# Altium integrated library Freescale Semiconductor ColdFire MCU.IntLib: 117 symbols (part 1 of 7)
Pins are listed as number, name and electrical type; pins without a type are passive.

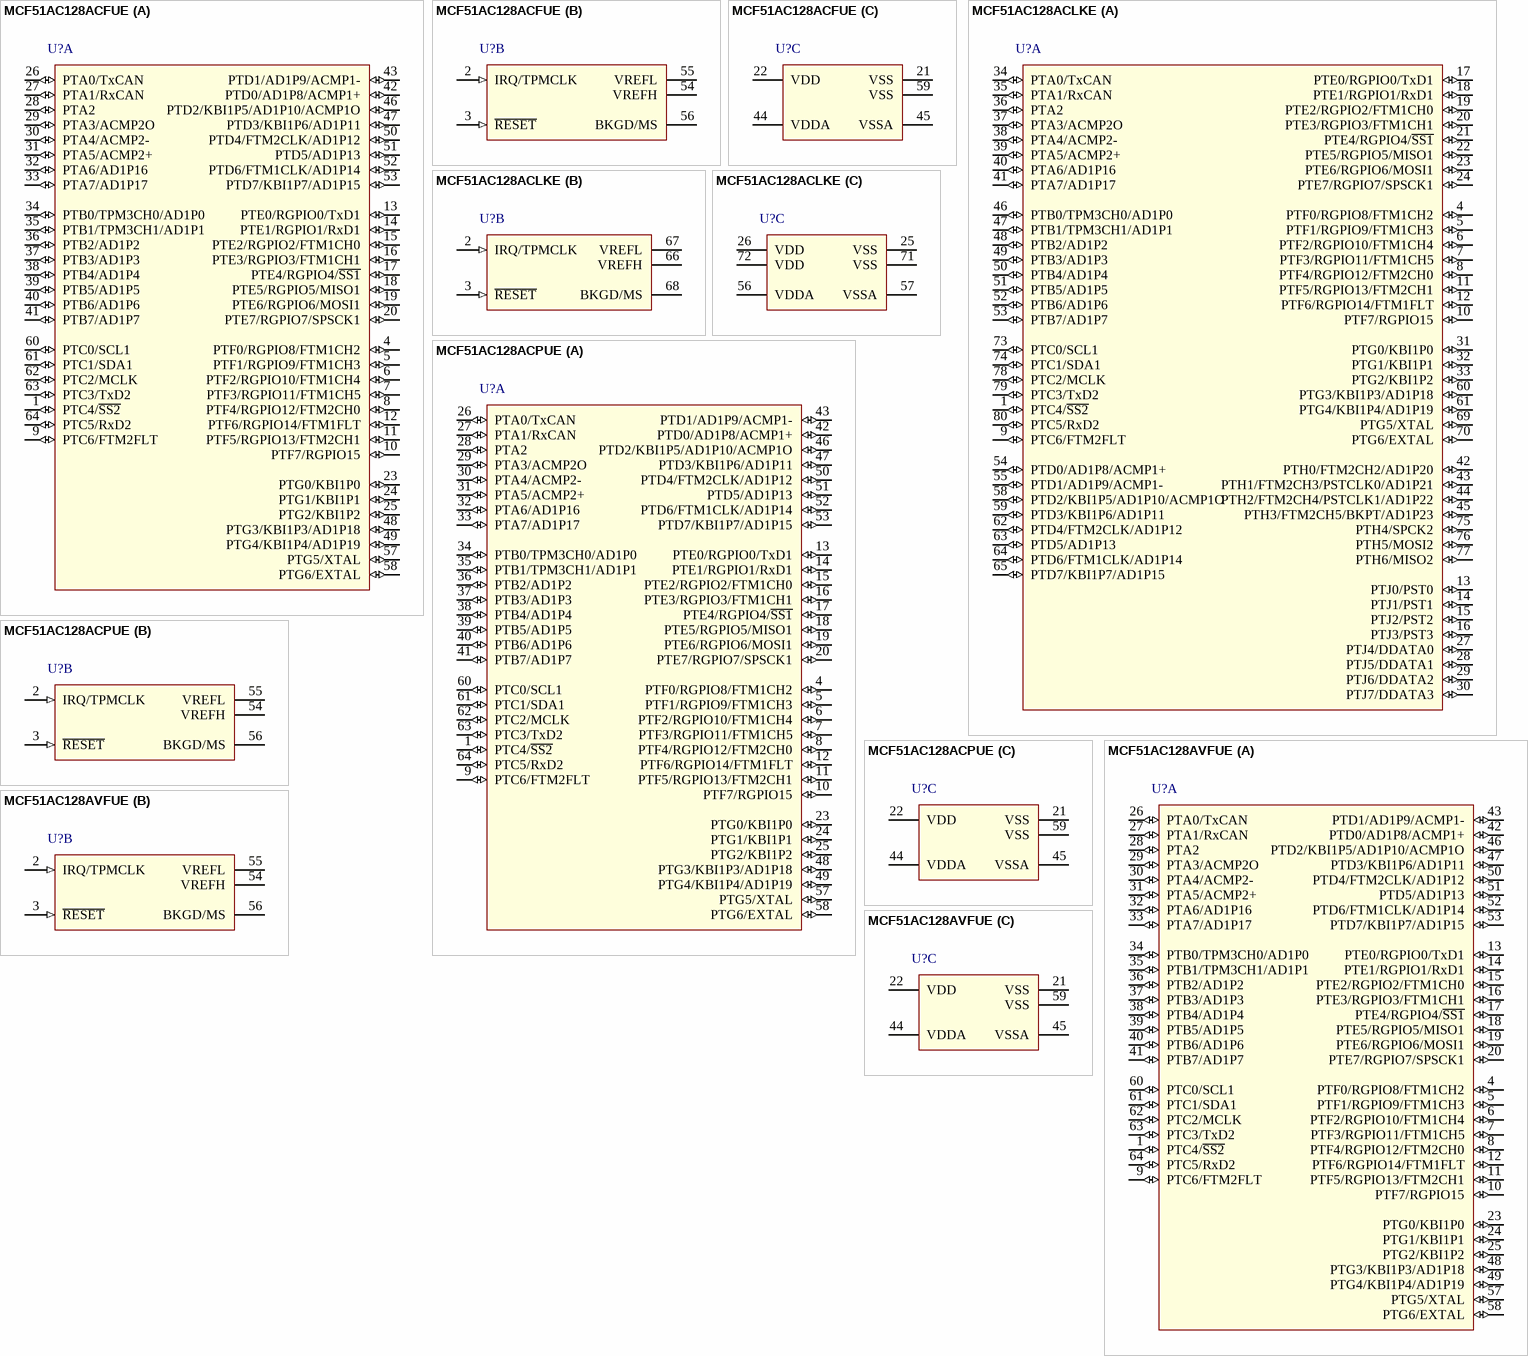
[diagram p0: symbols MCF51AC128ACFUE to MCF51AC128AVFUE]

## MCF51AC128ACFUE
designator U?
MCF51AC128 ColdFire V1 Microcontroller with CAN, 32-Bit, 128KB Flash, 32KB SRAM, -40°C to 85°C, 64-Pin QFP; DatasheetVersion: rev6, Mar-2011; PackageVersion: rev6, Mar-2011; PackageReference: 840B-02; PackageDescription: 64-Pin Quad Flat Pack, 14 x 14 mm Body, 0.8 mm Pitch; ComponentLink1Description: Manufacturer URL; ComponentLink1URL: http://www.freescale.com/; ComponentLink2Description: Datasheet; ComponentLink2URL: http://cache.freescale.com/files/32bit/doc/data_sheet/MCF51AC256.pdf?fpsp=1&WT_TYPE=Data%20Sheets&WT_VENDOR=FREESCALE&WT_FILE_FORMAT=pdf&WT_ASSET=Documentation
footprint 840B-02_N (QFP, 64-Leads, Body 14x14mm, Pitch 0.8mm, IPC Medium Density)
footprint 840B-02_L (QFP, 64-Leads, Body 14x14mm, Pitch 0.8mm, IPC High Density)
footprint 840B-02_M (QFP, 64-Leads, Body 14x14mm, Pitch 0.8mm, IPC Low Density)
part A pins: 1 PTC4/~{SS2} (io), 4 PTF0/RGPIO8/FTM1CH2 (io), 5 PTF1/RGPIO9/FTM1CH3 (io), 6 PTF2/RGPIO10/FTM1CH4 (io), 7 PTF3/RGPIO11/FTM1CH5 (io), 8 PTF4/RGPIO12/FTM2CH0 (io), 9 PTC6/FTM2FLT (io), 10 PTF7/RGPIO15 (io), 11 PTF5/RGPIO13/FTM2CH1 (io), 12 PTF6/RGPIO14/FTM1FLT (io), 13 PTE0/RGPIO0/TxD1 (io), 14 PTE1/RGPIO1/RxD1 (io), 15 PTE2/RGPIO2/FTM1CH0 (io), 16 PTE3/RGPIO3/FTM1CH1 (io), 17 PTE4/RGPIO4/~{SS1} (io), 18 PTE5/RGPIO5/MISO1 (io), 19 PTE6/RGPIO6/MOSI1 (io), 20 PTE7/RGPIO7/SPSCK1 (io), 23 PTG0/KBI1P0 (io), 24 PTG1/KBI1P1 (io), 25 PTG2/KBI1P2 (io), 26 PTA0/TxCAN (io), 27 PTA1/RxCAN (io), 28 PTA2 (io), 29 PTA3/ACMP2O (io), 30 PTA4/ACMP2- (io), 31 PTA5/ACMP2+ (io), 32 PTA6/AD1P16 (io), 33 PTA7/AD1P17 (io), 34 PTB0/TPM3CH0/AD1P0 (io), 35 PTB1/TPM3CH1/AD1P1 (io), 36 PTB2/AD1P2 (io), 37 PTB3/AD1P3 (io), 38 PTB4/AD1P4 (io), 39 PTB5/AD1P5 (io), 40 PTB6/AD1P6 (io), 41 PTB7/AD1P7 (io), 42 PTD0/AD1P8/ACMP1+ (io), 43 PTD1/AD1P9/ACMP1- (io), 46 PTD2/KBI1P5/AD1P10/ACMP1O (io), 47 PTD3/KBI1P6/AD1P11 (io), 48 PTG3/KBI1P3/AD1P18 (io), 49 PTG4/KBI1P4/AD1P19 (io), 50 PTD4/FTM2CLK/AD1P12 (io), 51 PTD5/AD1P13 (io), 52 PTD6/FTM1CLK/AD1P14 (io), 53 PTD7/KBI1P7/AD1P15 (io), 57 PTG5/XTAL (io), 58 PTG6/EXTAL (io), 60 PTC0/SCL1 (io), 61 PTC1/SDA1 (io), 62 PTC2/MCLK (io), 63 PTC3/TxD2 (io), 64 PTC5/RxD2 (io)
part B pins: 2 IRQ/TPMCLK (in), 3 ~{RESET} (in), 54 VREFH (power), 55 VREFL (power), 56 BKGD/MS
part C pins: 21 VSS (power), 22 VDD (power), 44 VDDA (power), 45 VSSA (power), 59 VSS (power)

## MCF51AC128ACLKE
designator U?
MCF51AC128 ColdFire V1 Microcontroller with CAN, 32-Bit, 128KB Flash, 32KB SRAM, -40°C to 85°C, 80-Pin LQFP; DatasheetVersion: rev6, Mar-2011; PackageVersion: revC, May-2005; PackageReference: 1418-01; PackageDescription: 80-Pin Quad Flat Pack 0.65 mm Pitch; ComponentLink1Description: Manufacturer URL; ComponentLink1URL: http://www.freescale.com/; ComponentLink2Description: Datasheet; ComponentLink2URL: http://cache.freescale.com/files/32bit/doc/data_sheet/MCF51AC256.pdf?fpsp=1&WT_TYPE=Data%20Sheets&WT_VENDOR=FREESCALE&WT_FILE_FORMAT=pdf&WT_ASSET=Documentation
footprint 1418-01_N (QFP, 80-Leads, Body 14x14mm, Pitch 0.65mm, IPC Medium Density)
footprint 1418-01_L (QFP, 80-Leads, Body 14x14mm, Pitch 0.65mm, IPC High Density)
footprint 1418-01_M (QFP, 80-Leads, Body 14x14mm, Pitch 0.65mm, IPC Low Density)
part A pins: 1 PTC4/~{SS2} (io), 4 PTF0/RGPIO8/FTM1CH2 (io), 5 PTF1/RGPIO9/FTM1CH3 (io), 6 PTF2/RGPIO10/FTM1CH4 (io), 7 PTF3/RGPIO11/FTM1CH5 (io), 8 PTF4/RGPIO12/FTM2CH0 (io), 9 PTC6/FTM2FLT (io), 10 PTF7/RGPIO15 (io), 11 PTF5/RGPIO13/FTM2CH1 (io), 12 PTF6/RGPIO14/FTM1FLT (io), 13 PTJ0/PST0 (io), 14 PTJ1/PST1 (io), 15 PTJ2/PST2 (io), 16 PTJ3/PST3 (io), 17 PTE0/RGPIO0/TxD1 (io), 18 PTE1/RGPIO1/RxD1 (io), 19 PTE2/RGPIO2/FTM1CH0 (io), 20 PTE3/RGPIO3/FTM1CH1 (io), 21 PTE4/RGPIO4/~{SS1} (io), 22 PTE5/RGPIO5/MISO1 (io), 23 PTE6/RGPIO6/MOSI1 (io), 24 PTE7/RGPIO7/SPSCK1 (io), 27 PTJ4/DDATA0 (io), 28 PTJ5/DDATA1 (io), 29 PTJ6/DDATA2 (io), 30 PTJ7/DDATA3 (io), 31 PTG0/KBI1P0 (io), 32 PTG1/KBI1P1 (io), 33 PTG2/KBI1P2 (io), 34 PTA0/TxCAN (io), 35 PTA1/RxCAN (io), 36 PTA2 (io), 37 PTA3/ACMP2O (io), 38 PTA4/ACMP2- (io), 39 PTA5/ACMP2+ (io), 40 PTA6/AD1P16 (io), 41 PTA7/AD1P17 (io), 42 PTH0/FTM2CH2/AD1P20 (io), 43 PTH1/FTM2CH3/PSTCLK0/AD1P21 (io), 44 PTH2/FTM2CH4/PSTCLK1/AD1P22 (io), 45 PTH3/FTM2CH5/BKPT/AD1P23 (io), 46 PTB0/TPM3CH0/AD1P0 (io), 47 PTB1/TPM3CH1/AD1P1 (io), 48 PTB2/AD1P2 (io), 49 PTB3/AD1P3 (io), 50 PTB4/AD1P4 (io), 51 PTB5/AD1P5 (io), 52 PTB6/AD1P6 (io), 53 PTB7/AD1P7 (io), 54 PTD0/AD1P8/ACMP1+ (io), 55 PTD1/AD1P9/ACMP1- (io), 58 PTD2/KBI1P5/AD1P10/ACMP1O (io), 59 PTD3/KBI1P6/AD1P11 (io), 60 PTG3/KBI1P3/AD1P18 (io), 61 PTG4/KBI1P4/AD1P19 (io), 62 PTD4/FTM2CLK/AD1P12 (io), 63 PTD5/AD1P13 (io), 64 PTD6/FTM1CLK/AD1P14 (io), 65 PTD7/KBI1P7/AD1P15 (io), 69 PTG5/XTAL (io), 70 PTG6/EXTAL (io), 73 PTC0/SCL1 (io), 74 PTC1/SDA1 (io), 75 PTH4/SPCK2 (io), 76 PTH5/MOSI2 (io), 77 PTH6/MISO2 (io), 78 PTC2/MCLK (io), 79 PTC3/TxD2 (io), 80 PTC5/RxD2 (io)
part B pins: 2 IRQ/TPMCLK (in), 3 ~{RESET} (in), 66 VREFH (power), 67 VREFL (power), 68 BKGD/MS
part C pins: 25 VSS (power), 26 VDD (power), 56 VDDA (power), 57 VSSA (power), 71 VSS (power), 72 VDD (power)

## MCF51AC128ACPUE
designator U?
MCF51AC128 ColdFire V1 Microcontroller with CAN, 32-Bit, 128KB Flash, 32KB SRAM, -40°C to 85°C, 64-Pin LQFP; DatasheetVersion: rev6, Mar-2011; PackageVersion: rev6, Mar-2011; PackageReference: 840F-02; PackageDescription: 64-Pin Thin Quad Flat Pack, 10 x 10 mm Body, 0.5 mm Pitch; ComponentLink1Description: Manufacturer URL; ComponentLink1URL: http://www.freescale.com/; ComponentLink2Description: Datasheet; ComponentLink2URL: http://cache.freescale.com/files/32bit/doc/data_sheet/MCF51AC256.pdf?fpsp=1&WT_TYPE=Data%20Sheets&WT_VENDOR=FREESCALE&WT_FILE_FORMAT=pdf&WT_ASSET=Documentation
footprint 840F-02_N (Thin QFP, 64-Leads, Body 10x10mm, Pitch 0.5mm, IPC Medium Density)
footprint 840F-02_L (Thin QFP, 64-Leads, Body 10x10mm, Pitch 0.5mm, IPC High Density)
footprint 840F-02_M (Thin QFP, 64-Leads, Body 10x10mm, Pitch 0.5mm, IPC Low Density)
part A pins: 1 PTC4/~{SS2} (io), 4 PTF0/RGPIO8/FTM1CH2 (io), 5 PTF1/RGPIO9/FTM1CH3 (io), 6 PTF2/RGPIO10/FTM1CH4 (io), 7 PTF3/RGPIO11/FTM1CH5 (io), 8 PTF4/RGPIO12/FTM2CH0 (io), 9 PTC6/FTM2FLT (io), 10 PTF7/RGPIO15 (io), 11 PTF5/RGPIO13/FTM2CH1 (io), 12 PTF6/RGPIO14/FTM1FLT (io), 13 PTE0/RGPIO0/TxD1 (io), 14 PTE1/RGPIO1/RxD1 (io), 15 PTE2/RGPIO2/FTM1CH0 (io), 16 PTE3/RGPIO3/FTM1CH1 (io), 17 PTE4/RGPIO4/~{SS1} (io), 18 PTE5/RGPIO5/MISO1 (io), 19 PTE6/RGPIO6/MOSI1 (io), 20 PTE7/RGPIO7/SPSCK1 (io), 23 PTG0/KBI1P0 (io), 24 PTG1/KBI1P1 (io), 25 PTG2/KBI1P2 (io), 26 PTA0/TxCAN (io), 27 PTA1/RxCAN (io), 28 PTA2 (io), 29 PTA3/ACMP2O (io), 30 PTA4/ACMP2- (io), 31 PTA5/ACMP2+ (io), 32 PTA6/AD1P16 (io), 33 PTA7/AD1P17 (io), 34 PTB0/TPM3CH0/AD1P0 (io), 35 PTB1/TPM3CH1/AD1P1 (io), 36 PTB2/AD1P2 (io), 37 PTB3/AD1P3 (io), 38 PTB4/AD1P4 (io), 39 PTB5/AD1P5 (io), 40 PTB6/AD1P6 (io), 41 PTB7/AD1P7 (io), 42 PTD0/AD1P8/ACMP1+ (io), 43 PTD1/AD1P9/ACMP1- (io), 46 PTD2/KBI1P5/AD1P10/ACMP1O (io), 47 PTD3/KBI1P6/AD1P11 (io), 48 PTG3/KBI1P3/AD1P18 (io), 49 PTG4/KBI1P4/AD1P19 (io), 50 PTD4/FTM2CLK/AD1P12 (io), 51 PTD5/AD1P13 (io), 52 PTD6/FTM1CLK/AD1P14 (io), 53 PTD7/KBI1P7/AD1P15 (io), 57 PTG5/XTAL (io), 58 PTG6/EXTAL (io), 60 PTC0/SCL1 (io), 61 PTC1/SDA1 (io), 62 PTC2/MCLK (io), 63 PTC3/TxD2 (io), 64 PTC5/RxD2 (io)
part B pins: 2 IRQ/TPMCLK (in), 3 ~{RESET} (in), 54 VREFH (power), 55 VREFL (power), 56 BKGD/MS
part C pins: 21 VSS (power), 22 VDD (power), 44 VDDA (power), 45 VSSA (power), 59 VSS (power)

## MCF51AC128AVFUE
designator U?
MCF51AC128 ColdFire V1 Microcontroller with CAN, 32-Bit, 128KB Flash, 32KB SRAM, -40°C to 105°C, 64-Pin QFP; DatasheetVersion: rev6, Mar-2011; PackageVersion: rev6, Mar-2011; PackageReference: 840B-02; PackageDescription: 64-Pin Quad Flat Pack, 14 x 14 mm Body, 0.8 mm Pitch; ComponentLink1Description: Manufacturer URL; ComponentLink1URL: http://www.freescale.com/; ComponentLink2Description: Datasheet; ComponentLink2URL: http://cache.freescale.com/files/32bit/doc/data_sheet/MCF51AC256.pdf?fpsp=1&WT_TYPE=Data%20Sheets&WT_VENDOR=FREESCALE&WT_FILE_FORMAT=pdf&WT_ASSET=Documentation
footprint 840B-02_N (QFP, 64-Leads, Body 14x14mm, Pitch 0.8mm, IPC Medium Density)
footprint 840B-02_L (QFP, 64-Leads, Body 14x14mm, Pitch 0.8mm, IPC High Density)
footprint 840B-02_M (QFP, 64-Leads, Body 14x14mm, Pitch 0.8mm, IPC Low Density)
part A pins: 1 PTC4/~{SS2} (io), 4 PTF0/RGPIO8/FTM1CH2 (io), 5 PTF1/RGPIO9/FTM1CH3 (io), 6 PTF2/RGPIO10/FTM1CH4 (io), 7 PTF3/RGPIO11/FTM1CH5 (io), 8 PTF4/RGPIO12/FTM2CH0 (io), 9 PTC6/FTM2FLT (io), 10 PTF7/RGPIO15 (io), 11 PTF5/RGPIO13/FTM2CH1 (io), 12 PTF6/RGPIO14/FTM1FLT (io), 13 PTE0/RGPIO0/TxD1 (io), 14 PTE1/RGPIO1/RxD1 (io), 15 PTE2/RGPIO2/FTM1CH0 (io), 16 PTE3/RGPIO3/FTM1CH1 (io), 17 PTE4/RGPIO4/~{SS1} (io), 18 PTE5/RGPIO5/MISO1 (io), 19 PTE6/RGPIO6/MOSI1 (io), 20 PTE7/RGPIO7/SPSCK1 (io), 23 PTG0/KBI1P0 (io), 24 PTG1/KBI1P1 (io), 25 PTG2/KBI1P2 (io), 26 PTA0/TxCAN (io), 27 PTA1/RxCAN (io), 28 PTA2 (io), 29 PTA3/ACMP2O (io), 30 PTA4/ACMP2- (io), 31 PTA5/ACMP2+ (io), 32 PTA6/AD1P16 (io), 33 PTA7/AD1P17 (io), 34 PTB0/TPM3CH0/AD1P0 (io), 35 PTB1/TPM3CH1/AD1P1 (io), 36 PTB2/AD1P2 (io), 37 PTB3/AD1P3 (io), 38 PTB4/AD1P4 (io), 39 PTB5/AD1P5 (io), 40 PTB6/AD1P6 (io), 41 PTB7/AD1P7 (io), 42 PTD0/AD1P8/ACMP1+ (io), 43 PTD1/AD1P9/ACMP1- (io), 46 PTD2/KBI1P5/AD1P10/ACMP1O (io), 47 PTD3/KBI1P6/AD1P11 (io), 48 PTG3/KBI1P3/AD1P18 (io), 49 PTG4/KBI1P4/AD1P19 (io), 50 PTD4/FTM2CLK/AD1P12 (io), 51 PTD5/AD1P13 (io), 52 PTD6/FTM1CLK/AD1P14 (io), 53 PTD7/KBI1P7/AD1P15 (io), 57 PTG5/XTAL (io), 58 PTG6/EXTAL (io), 60 PTC0/SCL1 (io), 61 PTC1/SDA1 (io), 62 PTC2/MCLK (io), 63 PTC3/TxD2 (io), 64 PTC5/RxD2 (io)
part B pins: 2 IRQ/TPMCLK (in), 3 ~{RESET} (in), 54 VREFH (power), 55 VREFL (power), 56 BKGD/MS
part C pins: 21 VSS (power), 22 VDD (power), 44 VDDA (power), 45 VSSA (power), 59 VSS (power)

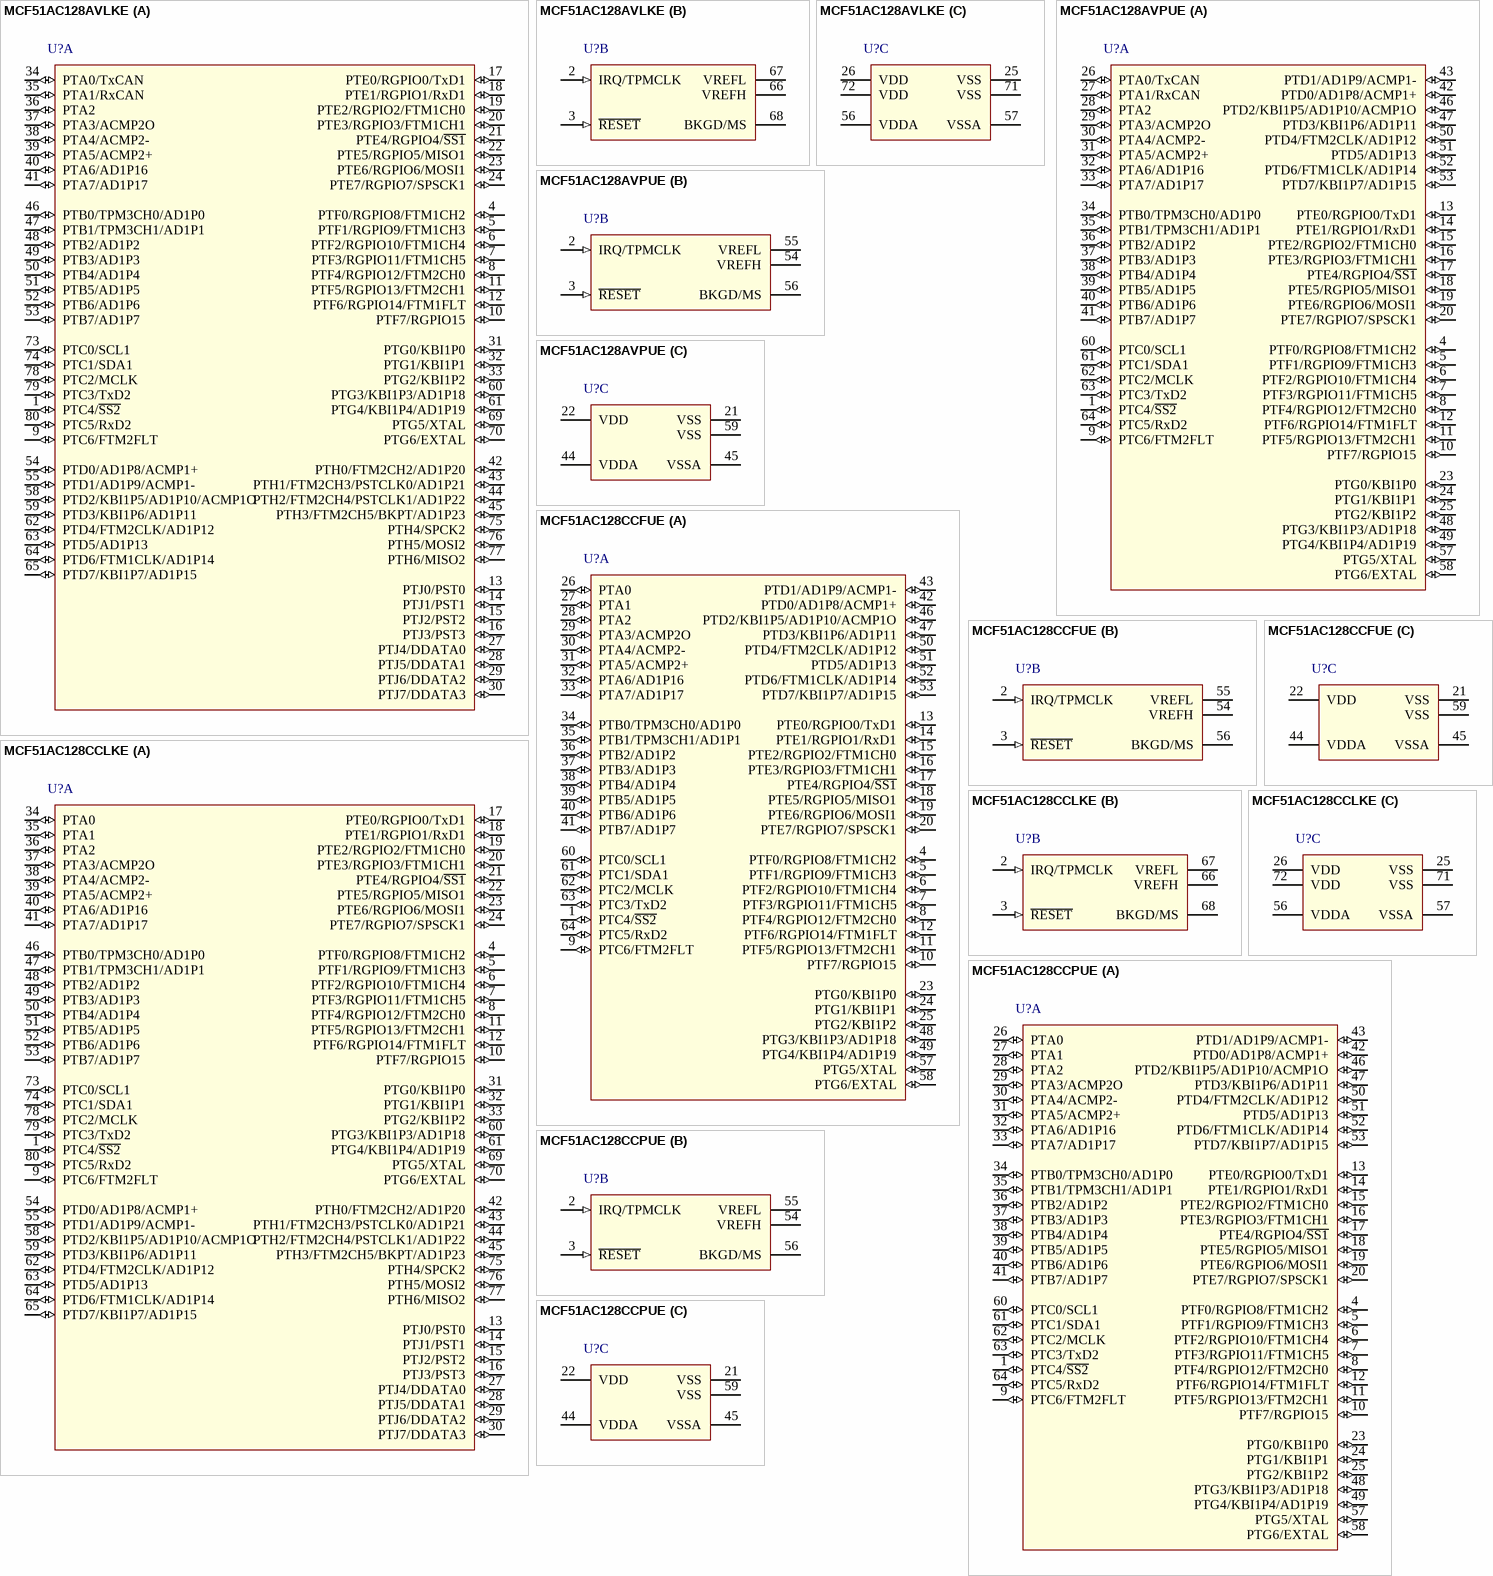
[diagram p1: symbols MCF51AC128AVLKE to MCF51AC128CCPUE]

## MCF51AC128AVLKE
designator U?
MCF51AC128 ColdFire V1 Microcontroller with CAN, 32-Bit, 128KB Flash, 32KB SRAM, -40°C to 105°C, 80-Pin LQFP; DatasheetVersion: rev6, Mar-2011; PackageVersion: revC, May-2005; PackageReference: 1418-01; PackageDescription: 80-Pin Quad Flat Pack 0.65 mm Pitch; ComponentLink1Description: Manufacturer URL; ComponentLink1URL: http://www.freescale.com/; ComponentLink2Description: Datasheet; ComponentLink2URL: http://cache.freescale.com/files/32bit/doc/data_sheet/MCF51AC256.pdf?fpsp=1&WT_TYPE=Data%20Sheets&WT_VENDOR=FREESCALE&WT_FILE_FORMAT=pdf&WT_ASSET=Documentation
footprint 1418-01_N (QFP, 80-Leads, Body 14x14mm, Pitch 0.65mm, IPC Medium Density)
footprint 1418-01_L (QFP, 80-Leads, Body 14x14mm, Pitch 0.65mm, IPC High Density)
footprint 1418-01_M (QFP, 80-Leads, Body 14x14mm, Pitch 0.65mm, IPC Low Density)
part A pins: 1 PTC4/~{SS2} (io), 4 PTF0/RGPIO8/FTM1CH2 (io), 5 PTF1/RGPIO9/FTM1CH3 (io), 6 PTF2/RGPIO10/FTM1CH4 (io), 7 PTF3/RGPIO11/FTM1CH5 (io), 8 PTF4/RGPIO12/FTM2CH0 (io), 9 PTC6/FTM2FLT (io), 10 PTF7/RGPIO15 (io), 11 PTF5/RGPIO13/FTM2CH1 (io), 12 PTF6/RGPIO14/FTM1FLT (io), 13 PTJ0/PST0 (io), 14 PTJ1/PST1 (io), 15 PTJ2/PST2 (io), 16 PTJ3/PST3 (io), 17 PTE0/RGPIO0/TxD1 (io), 18 PTE1/RGPIO1/RxD1 (io), 19 PTE2/RGPIO2/FTM1CH0 (io), 20 PTE3/RGPIO3/FTM1CH1 (io), 21 PTE4/RGPIO4/~{SS1} (io), 22 PTE5/RGPIO5/MISO1 (io), 23 PTE6/RGPIO6/MOSI1 (io), 24 PTE7/RGPIO7/SPSCK1 (io), 27 PTJ4/DDATA0 (io), 28 PTJ5/DDATA1 (io), 29 PTJ6/DDATA2 (io), 30 PTJ7/DDATA3 (io), 31 PTG0/KBI1P0 (io), 32 PTG1/KBI1P1 (io), 33 PTG2/KBI1P2 (io), 34 PTA0/TxCAN (io), 35 PTA1/RxCAN (io), 36 PTA2 (io), 37 PTA3/ACMP2O (io), 38 PTA4/ACMP2- (io), 39 PTA5/ACMP2+ (io), 40 PTA6/AD1P16 (io), 41 PTA7/AD1P17 (io), 42 PTH0/FTM2CH2/AD1P20 (io), 43 PTH1/FTM2CH3/PSTCLK0/AD1P21 (io), 44 PTH2/FTM2CH4/PSTCLK1/AD1P22 (io), 45 PTH3/FTM2CH5/BKPT/AD1P23 (io), 46 PTB0/TPM3CH0/AD1P0 (io), 47 PTB1/TPM3CH1/AD1P1 (io), 48 PTB2/AD1P2 (io), 49 PTB3/AD1P3 (io), 50 PTB4/AD1P4 (io), 51 PTB5/AD1P5 (io), 52 PTB6/AD1P6 (io), 53 PTB7/AD1P7 (io), 54 PTD0/AD1P8/ACMP1+ (io), 55 PTD1/AD1P9/ACMP1- (io), 58 PTD2/KBI1P5/AD1P10/ACMP1O (io), 59 PTD3/KBI1P6/AD1P11 (io), 60 PTG3/KBI1P3/AD1P18 (io), 61 PTG4/KBI1P4/AD1P19 (io), 62 PTD4/FTM2CLK/AD1P12 (io), 63 PTD5/AD1P13 (io), 64 PTD6/FTM1CLK/AD1P14 (io), 65 PTD7/KBI1P7/AD1P15 (io), 69 PTG5/XTAL (io), 70 PTG6/EXTAL (io), 73 PTC0/SCL1 (io), 74 PTC1/SDA1 (io), 75 PTH4/SPCK2 (io), 76 PTH5/MOSI2 (io), 77 PTH6/MISO2 (io), 78 PTC2/MCLK (io), 79 PTC3/TxD2 (io), 80 PTC5/RxD2 (io)
part B pins: 2 IRQ/TPMCLK (in), 3 ~{RESET} (in), 66 VREFH (power), 67 VREFL (power), 68 BKGD/MS
part C pins: 25 VSS (power), 26 VDD (power), 56 VDDA (power), 57 VSSA (power), 71 VSS (power), 72 VDD (power)

## MCF51AC128AVPUE
designator U?
MCF51AC128 ColdFire V1 Microcontroller with CAN, 32-Bit, 128KB Flash, 32KB SRAM, -40°C to 105°C, 64-Pin LQFP; DatasheetVersion: rev6, Mar-2011; PackageVersion: rev6, Mar-2011; PackageReference: 840F-02; PackageDescription: 64-Pin Thin Quad Flat Pack, 10 x 10 mm Body, 0.5 mm Pitch; ComponentLink1Description: Manufacturer URL; ComponentLink1URL: http://www.freescale.com/; ComponentLink2Description: Datasheet; ComponentLink2URL: http://cache.freescale.com/files/32bit/doc/data_sheet/MCF51AC256.pdf?fpsp=1&WT_TYPE=Data%20Sheets&WT_VENDOR=FREESCALE&WT_FILE_FORMAT=pdf&WT_ASSET=Documentation
footprint 840F-02_N (Thin QFP, 64-Leads, Body 10x10mm, Pitch 0.5mm, IPC Medium Density)
footprint 840F-02_L (Thin QFP, 64-Leads, Body 10x10mm, Pitch 0.5mm, IPC High Density)
footprint 840F-02_M (Thin QFP, 64-Leads, Body 10x10mm, Pitch 0.5mm, IPC Low Density)
part A pins: 1 PTC4/~{SS2} (io), 4 PTF0/RGPIO8/FTM1CH2 (io), 5 PTF1/RGPIO9/FTM1CH3 (io), 6 PTF2/RGPIO10/FTM1CH4 (io), 7 PTF3/RGPIO11/FTM1CH5 (io), 8 PTF4/RGPIO12/FTM2CH0 (io), 9 PTC6/FTM2FLT (io), 10 PTF7/RGPIO15 (io), 11 PTF5/RGPIO13/FTM2CH1 (io), 12 PTF6/RGPIO14/FTM1FLT (io), 13 PTE0/RGPIO0/TxD1 (io), 14 PTE1/RGPIO1/RxD1 (io), 15 PTE2/RGPIO2/FTM1CH0 (io), 16 PTE3/RGPIO3/FTM1CH1 (io), 17 PTE4/RGPIO4/~{SS1} (io), 18 PTE5/RGPIO5/MISO1 (io), 19 PTE6/RGPIO6/MOSI1 (io), 20 PTE7/RGPIO7/SPSCK1 (io), 23 PTG0/KBI1P0 (io), 24 PTG1/KBI1P1 (io), 25 PTG2/KBI1P2 (io), 26 PTA0/TxCAN (io), 27 PTA1/RxCAN (io), 28 PTA2 (io), 29 PTA3/ACMP2O (io), 30 PTA4/ACMP2- (io), 31 PTA5/ACMP2+ (io), 32 PTA6/AD1P16 (io), 33 PTA7/AD1P17 (io), 34 PTB0/TPM3CH0/AD1P0 (io), 35 PTB1/TPM3CH1/AD1P1 (io), 36 PTB2/AD1P2 (io), 37 PTB3/AD1P3 (io), 38 PTB4/AD1P4 (io), 39 PTB5/AD1P5 (io), 40 PTB6/AD1P6 (io), 41 PTB7/AD1P7 (io), 42 PTD0/AD1P8/ACMP1+ (io), 43 PTD1/AD1P9/ACMP1- (io), 46 PTD2/KBI1P5/AD1P10/ACMP1O (io), 47 PTD3/KBI1P6/AD1P11 (io), 48 PTG3/KBI1P3/AD1P18 (io), 49 PTG4/KBI1P4/AD1P19 (io), 50 PTD4/FTM2CLK/AD1P12 (io), 51 PTD5/AD1P13 (io), 52 PTD6/FTM1CLK/AD1P14 (io), 53 PTD7/KBI1P7/AD1P15 (io), 57 PTG5/XTAL (io), 58 PTG6/EXTAL (io), 60 PTC0/SCL1 (io), 61 PTC1/SDA1 (io), 62 PTC2/MCLK (io), 63 PTC3/TxD2 (io), 64 PTC5/RxD2 (io)
part B pins: 2 IRQ/TPMCLK (in), 3 ~{RESET} (in), 54 VREFH (power), 55 VREFL (power), 56 BKGD/MS
part C pins: 21 VSS (power), 22 VDD (power), 44 VDDA (power), 45 VSSA (power), 59 VSS (power)

## MCF51AC128CCFUE
designator U?
MCF51AC128 ColdFire V1 Microcontroller without CAN, 32-Bit, 128KB Flash, 16KB SRAM, -40°C to 85°C, 64-Pin QFP; DatasheetVersion: rev6, Mar-2011; PackageVersion: rev6, Mar-2011; PackageReference: 840B-02; PackageDescription: 64-Pin Quad Flat Pack, 14 x 14 mm Body, 0.8 mm Pitch; ComponentLink1Description: Manufacturer URL; ComponentLink1URL: http://www.freescale.com/; ComponentLink2Description: Datasheet; ComponentLink2URL: http://cache.freescale.com/files/32bit/doc/data_sheet/MCF51AC256.pdf?fpsp=1&WT_TYPE=Data%20Sheets&WT_VENDOR=FREESCALE&WT_FILE_FORMAT=pdf&WT_ASSET=Documentation
footprint 840B-02_N (QFP, 64-Leads, Body 14x14mm, Pitch 0.8mm, IPC Medium Density)
footprint 840B-02_L (QFP, 64-Leads, Body 14x14mm, Pitch 0.8mm, IPC High Density)
footprint 840B-02_M (QFP, 64-Leads, Body 14x14mm, Pitch 0.8mm, IPC Low Density)
part A pins: 1 PTC4/~{SS2} (io), 4 PTF0/RGPIO8/FTM1CH2 (io), 5 PTF1/RGPIO9/FTM1CH3 (io), 6 PTF2/RGPIO10/FTM1CH4 (io), 7 PTF3/RGPIO11/FTM1CH5 (io), 8 PTF4/RGPIO12/FTM2CH0 (io), 9 PTC6/FTM2FLT (io), 10 PTF7/RGPIO15 (io), 11 PTF5/RGPIO13/FTM2CH1 (io), 12 PTF6/RGPIO14/FTM1FLT (io), 13 PTE0/RGPIO0/TxD1 (io), 14 PTE1/RGPIO1/RxD1 (io), 15 PTE2/RGPIO2/FTM1CH0 (io), 16 PTE3/RGPIO3/FTM1CH1 (io), 17 PTE4/RGPIO4/~{SS1} (io), 18 PTE5/RGPIO5/MISO1 (io), 19 PTE6/RGPIO6/MOSI1 (io), 20 PTE7/RGPIO7/SPSCK1 (io), 23 PTG0/KBI1P0 (io), 24 PTG1/KBI1P1 (io), 25 PTG2/KBI1P2 (io), 26 PTA0 (io), 27 PTA1 (io), 28 PTA2 (io), 29 PTA3/ACMP2O (io), 30 PTA4/ACMP2- (io), 31 PTA5/ACMP2+ (io), 32 PTA6/AD1P16 (io), 33 PTA7/AD1P17 (io), 34 PTB0/TPM3CH0/AD1P0 (io), 35 PTB1/TPM3CH1/AD1P1 (io), 36 PTB2/AD1P2 (io), 37 PTB3/AD1P3 (io), 38 PTB4/AD1P4 (io), 39 PTB5/AD1P5 (io), 40 PTB6/AD1P6 (io), 41 PTB7/AD1P7 (io), 42 PTD0/AD1P8/ACMP1+ (io), 43 PTD1/AD1P9/ACMP1- (io), 46 PTD2/KBI1P5/AD1P10/ACMP1O (io), 47 PTD3/KBI1P6/AD1P11 (io), 48 PTG3/KBI1P3/AD1P18 (io), 49 PTG4/KBI1P4/AD1P19 (io), 50 PTD4/FTM2CLK/AD1P12 (io), 51 PTD5/AD1P13 (io), 52 PTD6/FTM1CLK/AD1P14 (io), 53 PTD7/KBI1P7/AD1P15 (io), 57 PTG5/XTAL (io), 58 PTG6/EXTAL (io), 60 PTC0/SCL1 (io), 61 PTC1/SDA1 (io), 62 PTC2/MCLK (io), 63 PTC3/TxD2 (io), 64 PTC5/RxD2 (io)
part B pins: 2 IRQ/TPMCLK (in), 3 ~{RESET} (in), 54 VREFH (power), 55 VREFL (power), 56 BKGD/MS
part C pins: 21 VSS (power), 22 VDD (power), 44 VDDA (power), 45 VSSA (power), 59 VSS (power)

## MCF51AC128CCLKE
designator U?
MCF51AC128 ColdFire V1 Microcontroller without CAN, 32-Bit, 128KB Flash, 16KB SRAM, -40°C to 85°C, 80-Pin LQFP; DatasheetVersion: rev6, Mar-2011; PackageVersion: revC, May-2005; PackageReference: 1418-01; PackageDescription: 80-Pin Quad Flat Pack 0.65 mm Pitch; ComponentLink1Description: Manufacturer URL; ComponentLink1URL: http://www.freescale.com/; ComponentLink2Description: Datasheet; ComponentLink2URL: http://cache.freescale.com/files/32bit/doc/data_sheet/MCF51AC256.pdf?fpsp=1&WT_TYPE=Data%20Sheets&WT_VENDOR=FREESCALE&WT_FILE_FORMAT=pdf&WT_ASSET=Documentation
footprint 1418-01_N (QFP, 80-Leads, Body 14x14mm, Pitch 0.65mm, IPC Medium Density)
footprint 1418-01_L (QFP, 80-Leads, Body 14x14mm, Pitch 0.65mm, IPC High Density)
footprint 1418-01_M (QFP, 80-Leads, Body 14x14mm, Pitch 0.65mm, IPC Low Density)
part A pins: 1 PTC4/~{SS2} (io), 4 PTF0/RGPIO8/FTM1CH2 (io), 5 PTF1/RGPIO9/FTM1CH3 (io), 6 PTF2/RGPIO10/FTM1CH4 (io), 7 PTF3/RGPIO11/FTM1CH5 (io), 8 PTF4/RGPIO12/FTM2CH0 (io), 9 PTC6/FTM2FLT (io), 10 PTF7/RGPIO15 (io), 11 PTF5/RGPIO13/FTM2CH1 (io), 12 PTF6/RGPIO14/FTM1FLT (io), 13 PTJ0/PST0 (io), 14 PTJ1/PST1 (io), 15 PTJ2/PST2 (io), 16 PTJ3/PST3 (io), 17 PTE0/RGPIO0/TxD1 (io), 18 PTE1/RGPIO1/RxD1 (io), 19 PTE2/RGPIO2/FTM1CH0 (io), 20 PTE3/RGPIO3/FTM1CH1 (io), 21 PTE4/RGPIO4/~{SS1} (io), 22 PTE5/RGPIO5/MISO1 (io), 23 PTE6/RGPIO6/MOSI1 (io), 24 PTE7/RGPIO7/SPSCK1 (io), 27 PTJ4/DDATA0 (io), 28 PTJ5/DDATA1 (io), 29 PTJ6/DDATA2 (io), 30 PTJ7/DDATA3 (io), 31 PTG0/KBI1P0 (io), 32 PTG1/KBI1P1 (io), 33 PTG2/KBI1P2 (io), 34 PTA0 (io), 35 PTA1 (io), 36 PTA2 (io), 37 PTA3/ACMP2O (io), 38 PTA4/ACMP2- (io), 39 PTA5/ACMP2+ (io), 40 PTA6/AD1P16 (io), 41 PTA7/AD1P17 (io), 42 PTH0/FTM2CH2/AD1P20 (io), 43 PTH1/FTM2CH3/PSTCLK0/AD1P21 (io), 44 PTH2/FTM2CH4/PSTCLK1/AD1P22 (io), 45 PTH3/FTM2CH5/BKPT/AD1P23 (io), 46 PTB0/TPM3CH0/AD1P0 (io), 47 PTB1/TPM3CH1/AD1P1 (io), 48 PTB2/AD1P2 (io), 49 PTB3/AD1P3 (io), 50 PTB4/AD1P4 (io), 51 PTB5/AD1P5 (io), 52 PTB6/AD1P6 (io), 53 PTB7/AD1P7 (io), 54 PTD0/AD1P8/ACMP1+ (io), 55 PTD1/AD1P9/ACMP1- (io), 58 PTD2/KBI1P5/AD1P10/ACMP1O (io), 59 PTD3/KBI1P6/AD1P11 (io), 60 PTG3/KBI1P3/AD1P18 (io), 61 PTG4/KBI1P4/AD1P19 (io), 62 PTD4/FTM2CLK/AD1P12 (io), 63 PTD5/AD1P13 (io), 64 PTD6/FTM1CLK/AD1P14 (io), 65 PTD7/KBI1P7/AD1P15 (io), 69 PTG5/XTAL (io), 70 PTG6/EXTAL (io), 73 PTC0/SCL1 (io), 74 PTC1/SDA1 (io), 75 PTH4/SPCK2 (io), 76 PTH5/MOSI2 (io), 77 PTH6/MISO2 (io), 78 PTC2/MCLK (io), 79 PTC3/TxD2 (io), 80 PTC5/RxD2 (io)
part B pins: 2 IRQ/TPMCLK (in), 3 ~{RESET} (in), 66 VREFH (power), 67 VREFL (power), 68 BKGD/MS
part C pins: 25 VSS (power), 26 VDD (power), 56 VDDA (power), 57 VSSA (power), 71 VSS (power), 72 VDD (power)

## MCF51AC128CCPUE
designator U?
MCF51AC128 ColdFire V1 Microcontroller without CAN, 32-Bit, 128KB Flash, 16KB SRAM, -40°C to 85°C, 64-Pin LQFP; DatasheetVersion: rev6, Mar-2011; PackageVersion: rev6, Mar-2011; PackageReference: 840F-02; PackageDescription: 64-Pin Thin Quad Flat Pack, 10 x 10 mm Body, 0.5 mm Pitch; ComponentLink1Description: Manufacturer URL; ComponentLink1URL: http://www.freescale.com/; ComponentLink2Description: Datasheet; ComponentLink2URL: http://cache.freescale.com/files/32bit/doc/data_sheet/MCF51AC256.pdf?fpsp=1&WT_TYPE=Data%20Sheets&WT_VENDOR=FREESCALE&WT_FILE_FORMAT=pdf&WT_ASSET=Documentation
footprint 840F-02_N (Thin QFP, 64-Leads, Body 10x10mm, Pitch 0.5mm, IPC Medium Density)
footprint 840F-02_L (Thin QFP, 64-Leads, Body 10x10mm, Pitch 0.5mm, IPC High Density)
footprint 840F-02_M (Thin QFP, 64-Leads, Body 10x10mm, Pitch 0.5mm, IPC Low Density)
part A pins: 1 PTC4/~{SS2} (io), 4 PTF0/RGPIO8/FTM1CH2 (io), 5 PTF1/RGPIO9/FTM1CH3 (io), 6 PTF2/RGPIO10/FTM1CH4 (io), 7 PTF3/RGPIO11/FTM1CH5 (io), 8 PTF4/RGPIO12/FTM2CH0 (io), 9 PTC6/FTM2FLT (io), 10 PTF7/RGPIO15 (io), 11 PTF5/RGPIO13/FTM2CH1 (io), 12 PTF6/RGPIO14/FTM1FLT (io), 13 PTE0/RGPIO0/TxD1 (io), 14 PTE1/RGPIO1/RxD1 (io), 15 PTE2/RGPIO2/FTM1CH0 (io), 16 PTE3/RGPIO3/FTM1CH1 (io), 17 PTE4/RGPIO4/~{SS1} (io), 18 PTE5/RGPIO5/MISO1 (io), 19 PTE6/RGPIO6/MOSI1 (io), 20 PTE7/RGPIO7/SPSCK1 (io), 23 PTG0/KBI1P0 (io), 24 PTG1/KBI1P1 (io), 25 PTG2/KBI1P2 (io), 26 PTA0 (io), 27 PTA1 (io), 28 PTA2 (io), 29 PTA3/ACMP2O (io), 30 PTA4/ACMP2- (io), 31 PTA5/ACMP2+ (io), 32 PTA6/AD1P16 (io), 33 PTA7/AD1P17 (io), 34 PTB0/TPM3CH0/AD1P0 (io), 35 PTB1/TPM3CH1/AD1P1 (io), 36 PTB2/AD1P2 (io), 37 PTB3/AD1P3 (io), 38 PTB4/AD1P4 (io), 39 PTB5/AD1P5 (io), 40 PTB6/AD1P6 (io), 41 PTB7/AD1P7 (io), 42 PTD0/AD1P8/ACMP1+ (io), 43 PTD1/AD1P9/ACMP1- (io), 46 PTD2/KBI1P5/AD1P10/ACMP1O (io), 47 PTD3/KBI1P6/AD1P11 (io), 48 PTG3/KBI1P3/AD1P18 (io), 49 PTG4/KBI1P4/AD1P19 (io), 50 PTD4/FTM2CLK/AD1P12 (io), 51 PTD5/AD1P13 (io), 52 PTD6/FTM1CLK/AD1P14 (io), 53 PTD7/KBI1P7/AD1P15 (io), 57 PTG5/XTAL (io), 58 PTG6/EXTAL (io), 60 PTC0/SCL1 (io), 61 PTC1/SDA1 (io), 62 PTC2/MCLK (io), 63 PTC3/TxD2 (io), 64 PTC5/RxD2 (io)
part B pins: 2 IRQ/TPMCLK (in), 3 ~{RESET} (in), 54 VREFH (power), 55 VREFL (power), 56 BKGD/MS
part C pins: 21 VSS (power), 22 VDD (power), 44 VDDA (power), 45 VSSA (power), 59 VSS (power)

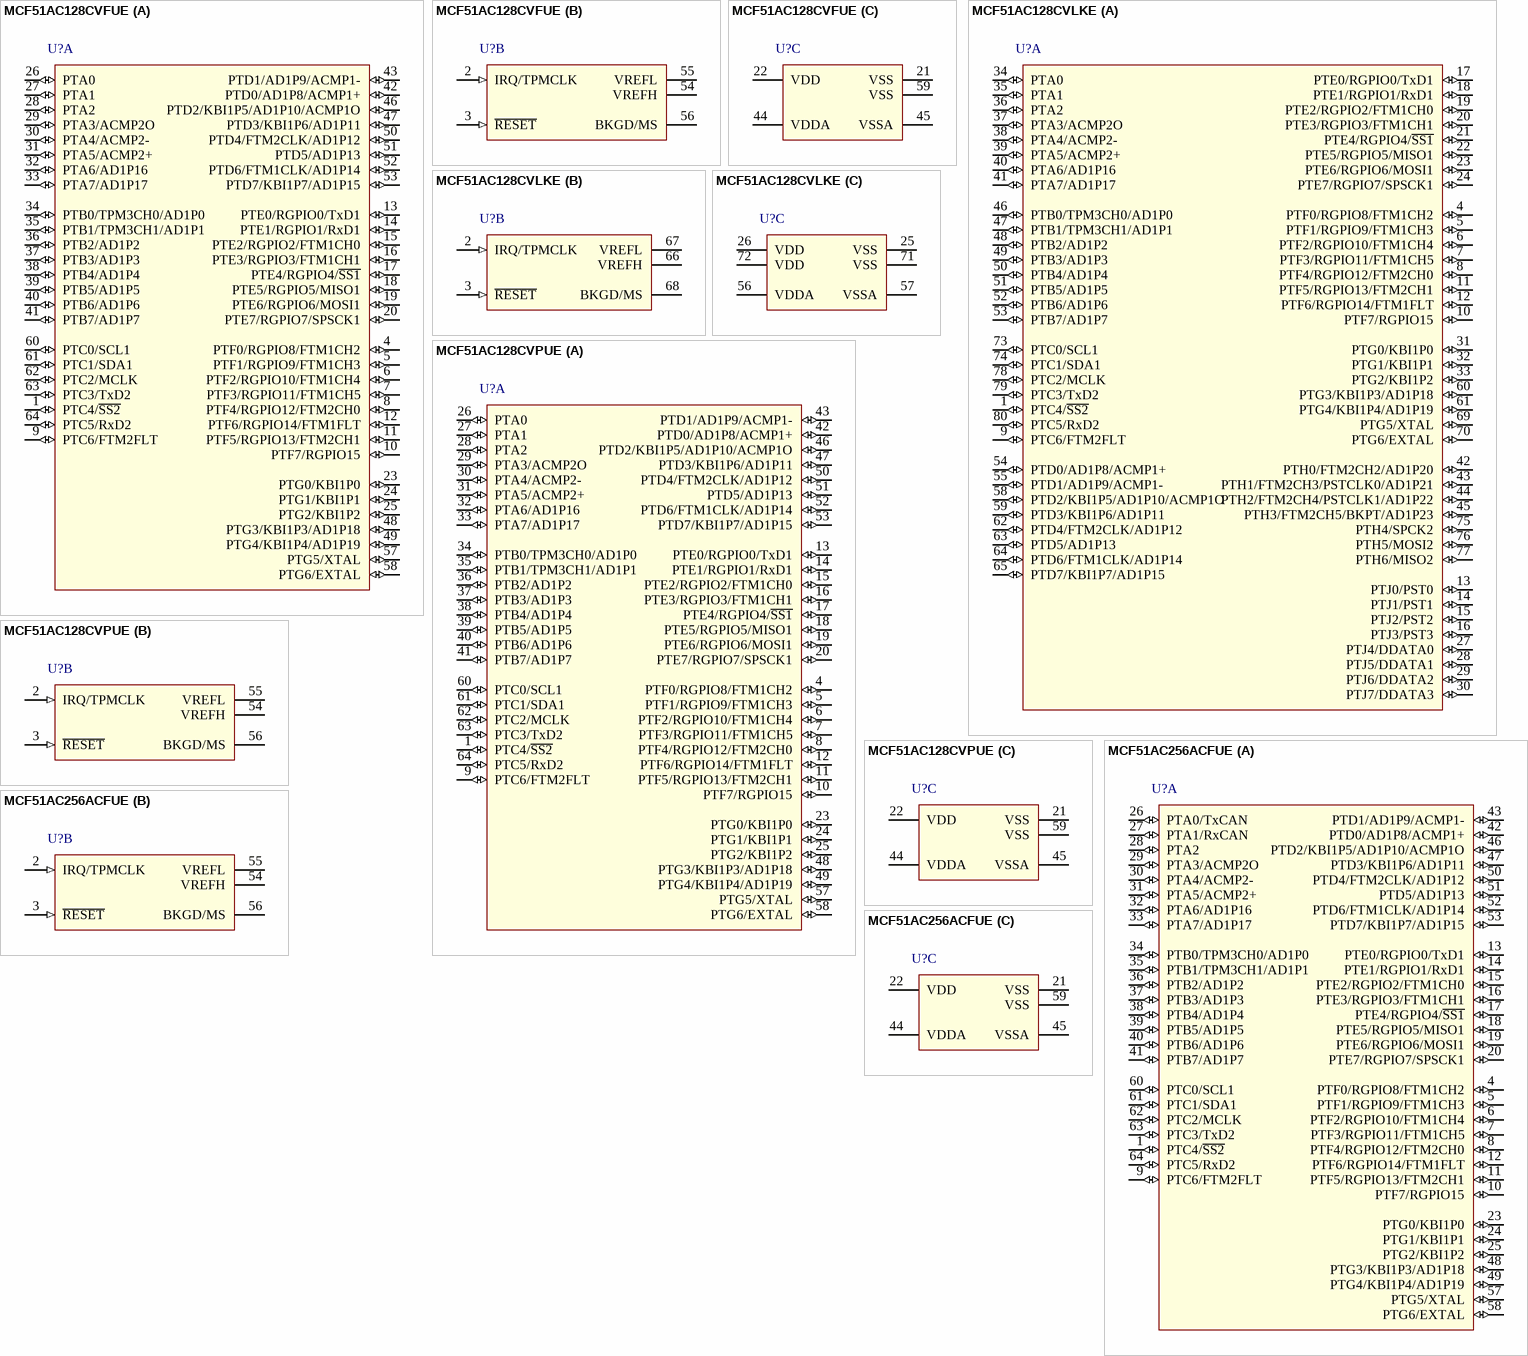
[diagram p2: symbols MCF51AC128CVFUE to MCF51AC256ACFUE]

## MCF51AC128CVFUE
designator U?
MCF51AC128 ColdFire V1 Microcontroller without CAN, 32-Bit, 128KB Flash, 16KB SRAM, -40°C to 105°C, 64-Pin QFP; DatasheetVersion: rev6, Mar-2011; PackageVersion: rev6, Mar-2011; PackageReference: 840B-02; PackageDescription: 64-Pin Quad Flat Pack, 14 x 14 mm Body, 0.8 mm Pitch; ComponentLink1Description: Manufacturer URL; ComponentLink1URL: http://www.freescale.com/; ComponentLink2Description: Datasheet; ComponentLink2URL: http://cache.freescale.com/files/32bit/doc/data_sheet/MCF51AC256.pdf?fpsp=1&WT_TYPE=Data%20Sheets&WT_VENDOR=FREESCALE&WT_FILE_FORMAT=pdf&WT_ASSET=Documentation
footprint 840B-02_N (QFP, 64-Leads, Body 14x14mm, Pitch 0.8mm, IPC Medium Density)
footprint 840B-02_L (QFP, 64-Leads, Body 14x14mm, Pitch 0.8mm, IPC High Density)
footprint 840B-02_M (QFP, 64-Leads, Body 14x14mm, Pitch 0.8mm, IPC Low Density)
part A pins: 1 PTC4/~{SS2} (io), 4 PTF0/RGPIO8/FTM1CH2 (io), 5 PTF1/RGPIO9/FTM1CH3 (io), 6 PTF2/RGPIO10/FTM1CH4 (io), 7 PTF3/RGPIO11/FTM1CH5 (io), 8 PTF4/RGPIO12/FTM2CH0 (io), 9 PTC6/FTM2FLT (io), 10 PTF7/RGPIO15 (io), 11 PTF5/RGPIO13/FTM2CH1 (io), 12 PTF6/RGPIO14/FTM1FLT (io), 13 PTE0/RGPIO0/TxD1 (io), 14 PTE1/RGPIO1/RxD1 (io), 15 PTE2/RGPIO2/FTM1CH0 (io), 16 PTE3/RGPIO3/FTM1CH1 (io), 17 PTE4/RGPIO4/~{SS1} (io), 18 PTE5/RGPIO5/MISO1 (io), 19 PTE6/RGPIO6/MOSI1 (io), 20 PTE7/RGPIO7/SPSCK1 (io), 23 PTG0/KBI1P0 (io), 24 PTG1/KBI1P1 (io), 25 PTG2/KBI1P2 (io), 26 PTA0 (io), 27 PTA1 (io), 28 PTA2 (io), 29 PTA3/ACMP2O (io), 30 PTA4/ACMP2- (io), 31 PTA5/ACMP2+ (io), 32 PTA6/AD1P16 (io), 33 PTA7/AD1P17 (io), 34 PTB0/TPM3CH0/AD1P0 (io), 35 PTB1/TPM3CH1/AD1P1 (io), 36 PTB2/AD1P2 (io), 37 PTB3/AD1P3 (io), 38 PTB4/AD1P4 (io), 39 PTB5/AD1P5 (io), 40 PTB6/AD1P6 (io), 41 PTB7/AD1P7 (io), 42 PTD0/AD1P8/ACMP1+ (io), 43 PTD1/AD1P9/ACMP1- (io), 46 PTD2/KBI1P5/AD1P10/ACMP1O (io), 47 PTD3/KBI1P6/AD1P11 (io), 48 PTG3/KBI1P3/AD1P18 (io), 49 PTG4/KBI1P4/AD1P19 (io), 50 PTD4/FTM2CLK/AD1P12 (io), 51 PTD5/AD1P13 (io), 52 PTD6/FTM1CLK/AD1P14 (io), 53 PTD7/KBI1P7/AD1P15 (io), 57 PTG5/XTAL (io), 58 PTG6/EXTAL (io), 60 PTC0/SCL1 (io), 61 PTC1/SDA1 (io), 62 PTC2/MCLK (io), 63 PTC3/TxD2 (io), 64 PTC5/RxD2 (io)
part B pins: 2 IRQ/TPMCLK (in), 3 ~{RESET} (in), 54 VREFH (power), 55 VREFL (power), 56 BKGD/MS
part C pins: 21 VSS (power), 22 VDD (power), 44 VDDA (power), 45 VSSA (power), 59 VSS (power)

## MCF51AC128CVLKE
designator U?
MCF51AC128 ColdFire V1 Microcontroller without CAN, 32-Bit, 128KB Flash, 16KB SRAM, -40°C to 105°C, 80-Pin LQFP; DatasheetVersion: rev6, Mar-2011; PackageVersion: revC, May-2005; PackageReference: 1418-01; PackageDescription: 80-Pin Quad Flat Pack 0.65 mm Pitch; ComponentLink1Description: Manufacturer URL; ComponentLink1URL: http://www.freescale.com/; ComponentLink2Description: Datasheet; ComponentLink2URL: http://cache.freescale.com/files/32bit/doc/data_sheet/MCF51AC256.pdf?fpsp=1&WT_TYPE=Data%20Sheets&WT_VENDOR=FREESCALE&WT_FILE_FORMAT=pdf&WT_ASSET=Documentation
footprint 1418-01_N (QFP, 80-Leads, Body 14x14mm, Pitch 0.65mm, IPC Medium Density)
footprint 1418-01_L (QFP, 80-Leads, Body 14x14mm, Pitch 0.65mm, IPC High Density)
footprint 1418-01_M (QFP, 80-Leads, Body 14x14mm, Pitch 0.65mm, IPC Low Density)
part A pins: 1 PTC4/~{SS2} (io), 4 PTF0/RGPIO8/FTM1CH2 (io), 5 PTF1/RGPIO9/FTM1CH3 (io), 6 PTF2/RGPIO10/FTM1CH4 (io), 7 PTF3/RGPIO11/FTM1CH5 (io), 8 PTF4/RGPIO12/FTM2CH0 (io), 9 PTC6/FTM2FLT (io), 10 PTF7/RGPIO15 (io), 11 PTF5/RGPIO13/FTM2CH1 (io), 12 PTF6/RGPIO14/FTM1FLT (io), 13 PTJ0/PST0 (io), 14 PTJ1/PST1 (io), 15 PTJ2/PST2 (io), 16 PTJ3/PST3 (io), 17 PTE0/RGPIO0/TxD1 (io), 18 PTE1/RGPIO1/RxD1 (io), 19 PTE2/RGPIO2/FTM1CH0 (io), 20 PTE3/RGPIO3/FTM1CH1 (io), 21 PTE4/RGPIO4/~{SS1} (io), 22 PTE5/RGPIO5/MISO1 (io), 23 PTE6/RGPIO6/MOSI1 (io), 24 PTE7/RGPIO7/SPSCK1 (io), 27 PTJ4/DDATA0 (io), 28 PTJ5/DDATA1 (io), 29 PTJ6/DDATA2 (io), 30 PTJ7/DDATA3 (io), 31 PTG0/KBI1P0 (io), 32 PTG1/KBI1P1 (io), 33 PTG2/KBI1P2 (io), 34 PTA0 (io), 35 PTA1 (io), 36 PTA2 (io), 37 PTA3/ACMP2O (io), 38 PTA4/ACMP2- (io), 39 PTA5/ACMP2+ (io), 40 PTA6/AD1P16 (io), 41 PTA7/AD1P17 (io), 42 PTH0/FTM2CH2/AD1P20 (io), 43 PTH1/FTM2CH3/PSTCLK0/AD1P21 (io), 44 PTH2/FTM2CH4/PSTCLK1/AD1P22 (io), 45 PTH3/FTM2CH5/BKPT/AD1P23 (io), 46 PTB0/TPM3CH0/AD1P0 (io), 47 PTB1/TPM3CH1/AD1P1 (io), 48 PTB2/AD1P2 (io), 49 PTB3/AD1P3 (io), 50 PTB4/AD1P4 (io), 51 PTB5/AD1P5 (io), 52 PTB6/AD1P6 (io), 53 PTB7/AD1P7 (io), 54 PTD0/AD1P8/ACMP1+ (io), 55 PTD1/AD1P9/ACMP1- (io), 58 PTD2/KBI1P5/AD1P10/ACMP1O (io), 59 PTD3/KBI1P6/AD1P11 (io), 60 PTG3/KBI1P3/AD1P18 (io), 61 PTG4/KBI1P4/AD1P19 (io), 62 PTD4/FTM2CLK/AD1P12 (io), 63 PTD5/AD1P13 (io), 64 PTD6/FTM1CLK/AD1P14 (io), 65 PTD7/KBI1P7/AD1P15 (io), 69 PTG5/XTAL (io), 70 PTG6/EXTAL (io), 73 PTC0/SCL1 (io), 74 PTC1/SDA1 (io), 75 PTH4/SPCK2 (io), 76 PTH5/MOSI2 (io), 77 PTH6/MISO2 (io), 78 PTC2/MCLK (io), 79 PTC3/TxD2 (io), 80 PTC5/RxD2 (io)
part B pins: 2 IRQ/TPMCLK (in), 3 ~{RESET} (in), 66 VREFH (power), 67 VREFL (power), 68 BKGD/MS
part C pins: 25 VSS (power), 26 VDD (power), 56 VDDA (power), 57 VSSA (power), 71 VSS (power), 72 VDD (power)

## MCF51AC128CVPUE
designator U?
MCF51AC128 ColdFire V1 Microcontroller without CAN, 32-Bit, 128KB Flash, 16KB SRAM, -40°C to 105°C, 64-Pin LQFP; DatasheetVersion: rev6, Mar-2011; PackageVersion: rev6, Mar-2011; PackageReference: 840F-02; PackageDescription: 64-Pin Thin Quad Flat Pack, 10 x 10 mm Body, 0.5 mm Pitch; ComponentLink1Description: Manufacturer URL; ComponentLink1URL: http://www.freescale.com/; ComponentLink2Description: Datasheet; ComponentLink2URL: http://cache.freescale.com/files/32bit/doc/data_sheet/MCF51AC256.pdf?fpsp=1&WT_TYPE=Data%20Sheets&WT_VENDOR=FREESCALE&WT_FILE_FORMAT=pdf&WT_ASSET=Documentation
footprint 840F-02_N (Thin QFP, 64-Leads, Body 10x10mm, Pitch 0.5mm, IPC Medium Density)
footprint 840F-02_L (Thin QFP, 64-Leads, Body 10x10mm, Pitch 0.5mm, IPC High Density)
footprint 840F-02_M (Thin QFP, 64-Leads, Body 10x10mm, Pitch 0.5mm, IPC Low Density)
part A pins: 1 PTC4/~{SS2} (io), 4 PTF0/RGPIO8/FTM1CH2 (io), 5 PTF1/RGPIO9/FTM1CH3 (io), 6 PTF2/RGPIO10/FTM1CH4 (io), 7 PTF3/RGPIO11/FTM1CH5 (io), 8 PTF4/RGPIO12/FTM2CH0 (io), 9 PTC6/FTM2FLT (io), 10 PTF7/RGPIO15 (io), 11 PTF5/RGPIO13/FTM2CH1 (io), 12 PTF6/RGPIO14/FTM1FLT (io), 13 PTE0/RGPIO0/TxD1 (io), 14 PTE1/RGPIO1/RxD1 (io), 15 PTE2/RGPIO2/FTM1CH0 (io), 16 PTE3/RGPIO3/FTM1CH1 (io), 17 PTE4/RGPIO4/~{SS1} (io), 18 PTE5/RGPIO5/MISO1 (io), 19 PTE6/RGPIO6/MOSI1 (io), 20 PTE7/RGPIO7/SPSCK1 (io), 23 PTG0/KBI1P0 (io), 24 PTG1/KBI1P1 (io), 25 PTG2/KBI1P2 (io), 26 PTA0 (io), 27 PTA1 (io), 28 PTA2 (io), 29 PTA3/ACMP2O (io), 30 PTA4/ACMP2- (io), 31 PTA5/ACMP2+ (io), 32 PTA6/AD1P16 (io), 33 PTA7/AD1P17 (io), 34 PTB0/TPM3CH0/AD1P0 (io), 35 PTB1/TPM3CH1/AD1P1 (io), 36 PTB2/AD1P2 (io), 37 PTB3/AD1P3 (io), 38 PTB4/AD1P4 (io), 39 PTB5/AD1P5 (io), 40 PTB6/AD1P6 (io), 41 PTB7/AD1P7 (io), 42 PTD0/AD1P8/ACMP1+ (io), 43 PTD1/AD1P9/ACMP1- (io), 46 PTD2/KBI1P5/AD1P10/ACMP1O (io), 47 PTD3/KBI1P6/AD1P11 (io), 48 PTG3/KBI1P3/AD1P18 (io), 49 PTG4/KBI1P4/AD1P19 (io), 50 PTD4/FTM2CLK/AD1P12 (io), 51 PTD5/AD1P13 (io), 52 PTD6/FTM1CLK/AD1P14 (io), 53 PTD7/KBI1P7/AD1P15 (io), 57 PTG5/XTAL (io), 58 PTG6/EXTAL (io), 60 PTC0/SCL1 (io), 61 PTC1/SDA1 (io), 62 PTC2/MCLK (io), 63 PTC3/TxD2 (io), 64 PTC5/RxD2 (io)
part B pins: 2 IRQ/TPMCLK (in), 3 ~{RESET} (in), 54 VREFH (power), 55 VREFL (power), 56 BKGD/MS
part C pins: 21 VSS (power), 22 VDD (power), 44 VDDA (power), 45 VSSA (power), 59 VSS (power)

## MCF51AC256ACFUE
designator U?
MCF51AC256 ColdFire V1 Microcontroller with CAN, 32-Bit, 256KB Flash, 32KB SRAM, -40°C to 85°C, 64-Pin QFP; DatasheetVersion: rev6, Mar-2011; PackageVersion: rev6, Mar-2011; PackageReference: 840B-02; PackageDescription: 64-Pin Quad Flat Pack, 14 x 14 mm Body, 0.8 mm Pitch; ComponentLink1Description: Manufacturer URL; ComponentLink1URL: http://www.freescale.com/; ComponentLink2Description: Datasheet; ComponentLink2URL: http://cache.freescale.com/files/32bit/doc/data_sheet/MCF51AC256.pdf?fpsp=1&WT_TYPE=Data%20Sheets&WT_VENDOR=FREESCALE&WT_FILE_FORMAT=pdf&WT_ASSET=Documentation
footprint 840B-02_N (QFP, 64-Leads, Body 14x14mm, Pitch 0.8mm, IPC Medium Density)
footprint 840B-02_L (QFP, 64-Leads, Body 14x14mm, Pitch 0.8mm, IPC High Density)
footprint 840B-02_M (QFP, 64-Leads, Body 14x14mm, Pitch 0.8mm, IPC Low Density)
part A pins: 1 PTC4/~{SS2} (io), 4 PTF0/RGPIO8/FTM1CH2 (io), 5 PTF1/RGPIO9/FTM1CH3 (io), 6 PTF2/RGPIO10/FTM1CH4 (io), 7 PTF3/RGPIO11/FTM1CH5 (io), 8 PTF4/RGPIO12/FTM2CH0 (io), 9 PTC6/FTM2FLT (io), 10 PTF7/RGPIO15 (io), 11 PTF5/RGPIO13/FTM2CH1 (io), 12 PTF6/RGPIO14/FTM1FLT (io), 13 PTE0/RGPIO0/TxD1 (io), 14 PTE1/RGPIO1/RxD1 (io), 15 PTE2/RGPIO2/FTM1CH0 (io), 16 PTE3/RGPIO3/FTM1CH1 (io), 17 PTE4/RGPIO4/~{SS1} (io), 18 PTE5/RGPIO5/MISO1 (io), 19 PTE6/RGPIO6/MOSI1 (io), 20 PTE7/RGPIO7/SPSCK1 (io), 23 PTG0/KBI1P0 (io), 24 PTG1/KBI1P1 (io), 25 PTG2/KBI1P2 (io), 26 PTA0/TxCAN (io), 27 PTA1/RxCAN (io), 28 PTA2 (io), 29 PTA3/ACMP2O (io), 30 PTA4/ACMP2- (io), 31 PTA5/ACMP2+ (io), 32 PTA6/AD1P16 (io), 33 PTA7/AD1P17 (io), 34 PTB0/TPM3CH0/AD1P0 (io), 35 PTB1/TPM3CH1/AD1P1 (io), 36 PTB2/AD1P2 (io), 37 PTB3/AD1P3 (io), 38 PTB4/AD1P4 (io), 39 PTB5/AD1P5 (io), 40 PTB6/AD1P6 (io), 41 PTB7/AD1P7 (io), 42 PTD0/AD1P8/ACMP1+ (io), 43 PTD1/AD1P9/ACMP1- (io), 46 PTD2/KBI1P5/AD1P10/ACMP1O (io), 47 PTD3/KBI1P6/AD1P11 (io), 48 PTG3/KBI1P3/AD1P18 (io), 49 PTG4/KBI1P4/AD1P19 (io), 50 PTD4/FTM2CLK/AD1P12 (io), 51 PTD5/AD1P13 (io), 52 PTD6/FTM1CLK/AD1P14 (io), 53 PTD7/KBI1P7/AD1P15 (io), 57 PTG5/XTAL (io), 58 PTG6/EXTAL (io), 60 PTC0/SCL1 (io), 61 PTC1/SDA1 (io), 62 PTC2/MCLK (io), 63 PTC3/TxD2 (io), 64 PTC5/RxD2 (io)
part B pins: 2 IRQ/TPMCLK (in), 3 ~{RESET} (in), 54 VREFH (power), 55 VREFL (power), 56 BKGD/MS
part C pins: 21 VSS (power), 22 VDD (power), 44 VDDA (power), 45 VSSA (power), 59 VSS (power)

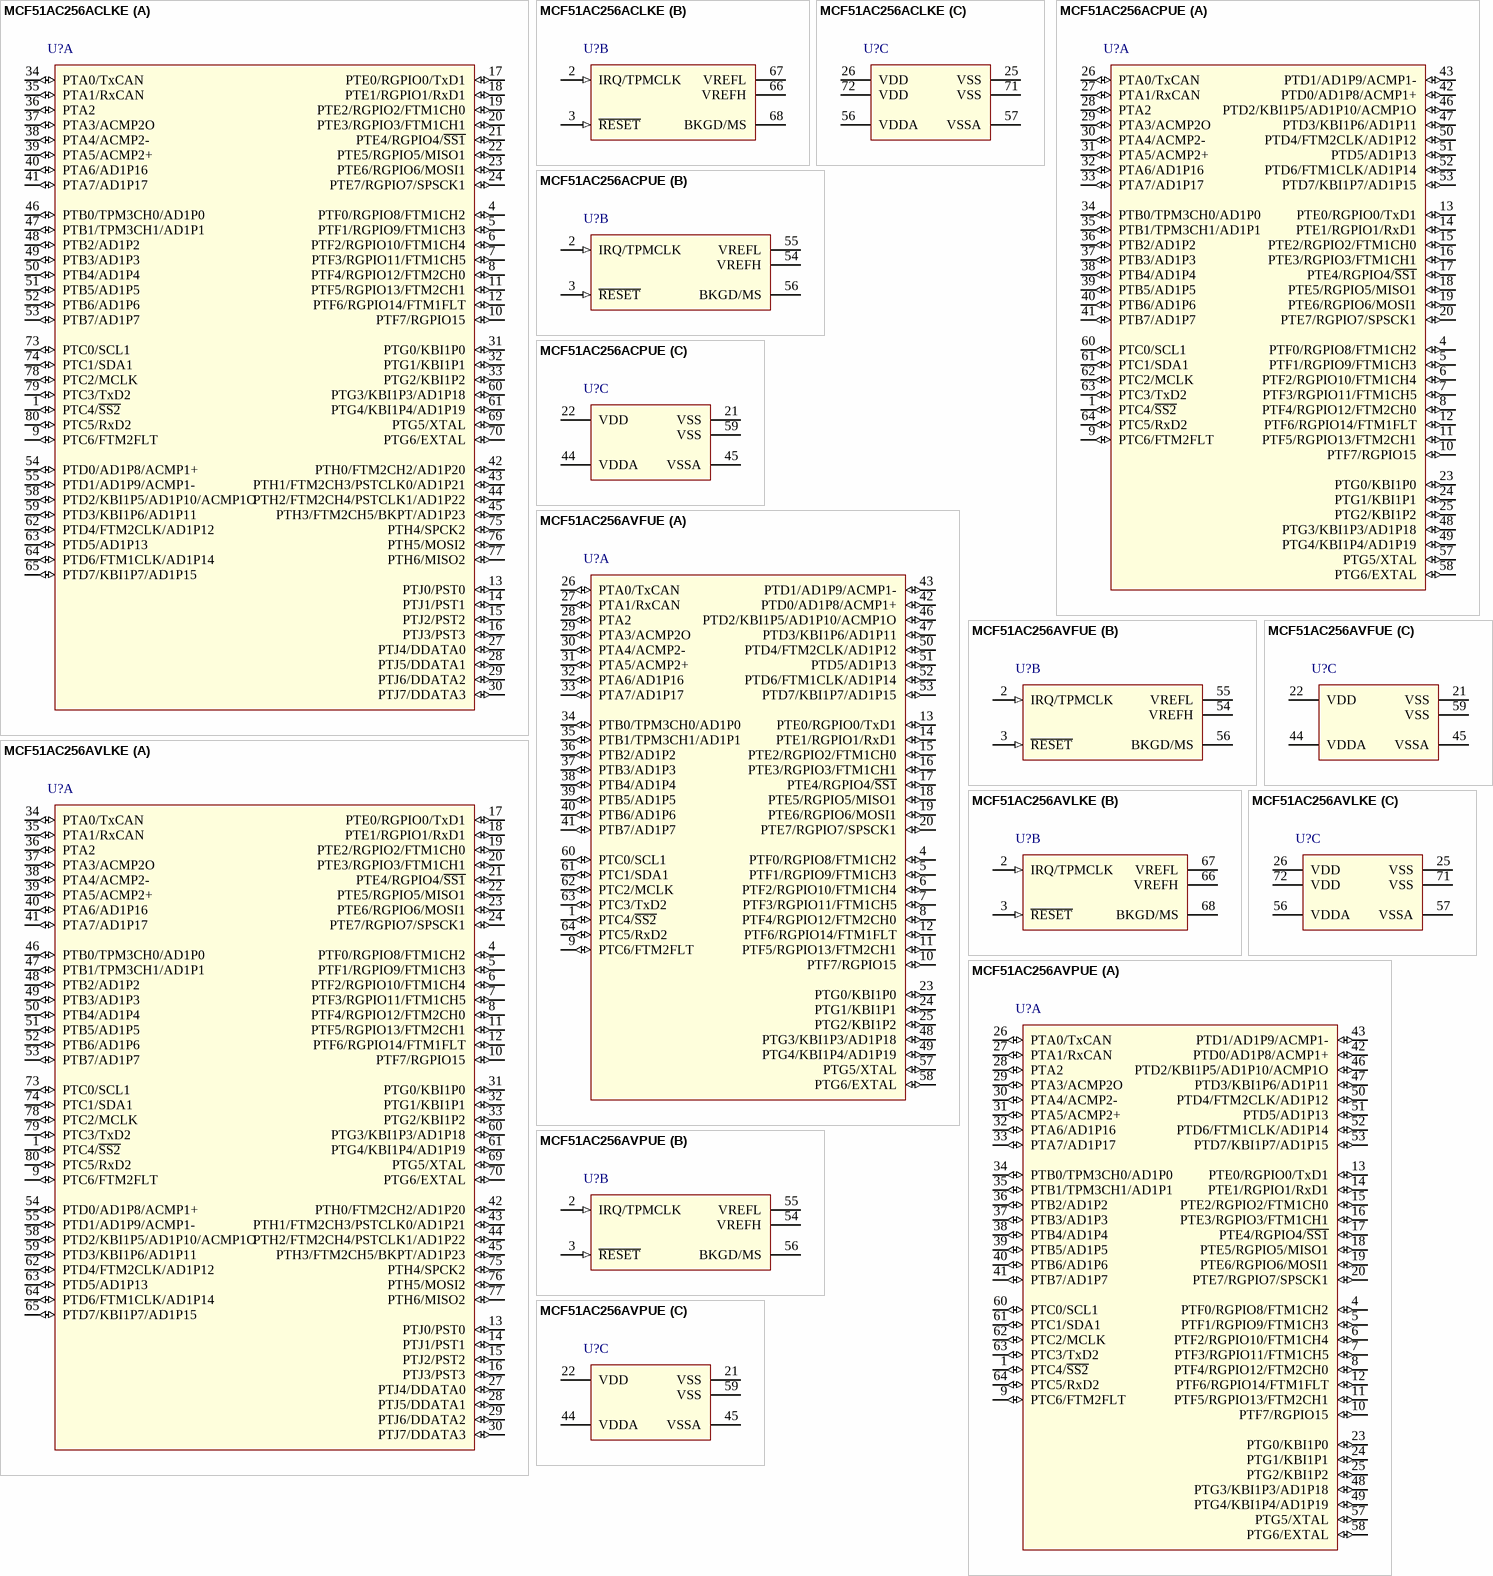
[diagram p3: symbols MCF51AC256ACLKE to MCF51AC256AVPUE]

## MCF51AC256ACLKE
designator U?
MCF51AC256 ColdFire V1 Microcontroller with CAN, 32-Bit, 256KB Flash, 32KB SRAM, -40°C to 85°C, 80-Pin LQFP; DatasheetVersion: rev6, Mar-2011; PackageVersion: revC, May-2005; PackageReference: 1418-01; PackageDescription: 80-Pin Quad Flat Pack 0.65 mm Pitch; ComponentLink1Description: Manufacturer URL; ComponentLink1URL: http://www.freescale.com/; ComponentLink2Description: Datasheet; ComponentLink2URL: http://cache.freescale.com/files/32bit/doc/data_sheet/MCF51AC256.pdf?fpsp=1&WT_TYPE=Data%20Sheets&WT_VENDOR=FREESCALE&WT_FILE_FORMAT=pdf&WT_ASSET=Documentation
footprint 1418-01_N (QFP, 80-Leads, Body 14x14mm, Pitch 0.65mm, IPC Medium Density)
footprint 1418-01_L (QFP, 80-Leads, Body 14x14mm, Pitch 0.65mm, IPC High Density)
footprint 1418-01_M (QFP, 80-Leads, Body 14x14mm, Pitch 0.65mm, IPC Low Density)
part A pins: 1 PTC4/~{SS2} (io), 4 PTF0/RGPIO8/FTM1CH2 (io), 5 PTF1/RGPIO9/FTM1CH3 (io), 6 PTF2/RGPIO10/FTM1CH4 (io), 7 PTF3/RGPIO11/FTM1CH5 (io), 8 PTF4/RGPIO12/FTM2CH0 (io), 9 PTC6/FTM2FLT (io), 10 PTF7/RGPIO15 (io), 11 PTF5/RGPIO13/FTM2CH1 (io), 12 PTF6/RGPIO14/FTM1FLT (io), 13 PTJ0/PST0 (io), 14 PTJ1/PST1 (io), 15 PTJ2/PST2 (io), 16 PTJ3/PST3 (io), 17 PTE0/RGPIO0/TxD1 (io), 18 PTE1/RGPIO1/RxD1 (io), 19 PTE2/RGPIO2/FTM1CH0 (io), 20 PTE3/RGPIO3/FTM1CH1 (io), 21 PTE4/RGPIO4/~{SS1} (io), 22 PTE5/RGPIO5/MISO1 (io), 23 PTE6/RGPIO6/MOSI1 (io), 24 PTE7/RGPIO7/SPSCK1 (io), 27 PTJ4/DDATA0 (io), 28 PTJ5/DDATA1 (io), 29 PTJ6/DDATA2 (io), 30 PTJ7/DDATA3 (io), 31 PTG0/KBI1P0 (io), 32 PTG1/KBI1P1 (io), 33 PTG2/KBI1P2 (io), 34 PTA0/TxCAN (io), 35 PTA1/RxCAN (io), 36 PTA2 (io), 37 PTA3/ACMP2O (io), 38 PTA4/ACMP2- (io), 39 PTA5/ACMP2+ (io), 40 PTA6/AD1P16 (io), 41 PTA7/AD1P17 (io), 42 PTH0/FTM2CH2/AD1P20 (io), 43 PTH1/FTM2CH3/PSTCLK0/AD1P21 (io), 44 PTH2/FTM2CH4/PSTCLK1/AD1P22 (io), 45 PTH3/FTM2CH5/BKPT/AD1P23 (io), 46 PTB0/TPM3CH0/AD1P0 (io), 47 PTB1/TPM3CH1/AD1P1 (io), 48 PTB2/AD1P2 (io), 49 PTB3/AD1P3 (io), 50 PTB4/AD1P4 (io), 51 PTB5/AD1P5 (io), 52 PTB6/AD1P6 (io), 53 PTB7/AD1P7 (io), 54 PTD0/AD1P8/ACMP1+ (io), 55 PTD1/AD1P9/ACMP1- (io), 58 PTD2/KBI1P5/AD1P10/ACMP1O (io), 59 PTD3/KBI1P6/AD1P11 (io), 60 PTG3/KBI1P3/AD1P18 (io), 61 PTG4/KBI1P4/AD1P19 (io), 62 PTD4/FTM2CLK/AD1P12 (io), 63 PTD5/AD1P13 (io), 64 PTD6/FTM1CLK/AD1P14 (io), 65 PTD7/KBI1P7/AD1P15 (io), 69 PTG5/XTAL (io), 70 PTG6/EXTAL (io), 73 PTC0/SCL1 (io), 74 PTC1/SDA1 (io), 75 PTH4/SPCK2 (io), 76 PTH5/MOSI2 (io), 77 PTH6/MISO2 (io), 78 PTC2/MCLK (io), 79 PTC3/TxD2 (io), 80 PTC5/RxD2 (io)
part B pins: 2 IRQ/TPMCLK (in), 3 ~{RESET} (in), 66 VREFH (power), 67 VREFL (power), 68 BKGD/MS
part C pins: 25 VSS (power), 26 VDD (power), 56 VDDA (power), 57 VSSA (power), 71 VSS (power), 72 VDD (power)

## MCF51AC256ACPUE
designator U?
MCF51AC256 ColdFire V1 Microcontroller with CAN, 32-Bit, 256KB Flash, 32KB SRAM, -40°C to 85°C, 64-Pin LQFP; DatasheetVersion: rev6, Mar-2011; PackageVersion: rev6, Mar-2011; PackageReference: 840F-02; PackageDescription: 64-Pin Thin Quad Flat Pack, 10 x 10 mm Body, 0.5 mm Pitch; ComponentLink1Description: Manufacturer URL; ComponentLink1URL: http://www.freescale.com/; ComponentLink2Description: Datasheet; ComponentLink2URL: http://cache.freescale.com/files/32bit/doc/data_sheet/MCF51AC256.pdf?fpsp=1&WT_TYPE=Data%20Sheets&WT_VENDOR=FREESCALE&WT_FILE_FORMAT=pdf&WT_ASSET=Documentation
footprint 840F-02_N (Thin QFP, 64-Leads, Body 10x10mm, Pitch 0.5mm, IPC Medium Density)
footprint 840F-02_L (Thin QFP, 64-Leads, Body 10x10mm, Pitch 0.5mm, IPC High Density)
footprint 840F-02_M (Thin QFP, 64-Leads, Body 10x10mm, Pitch 0.5mm, IPC Low Density)
part A pins: 1 PTC4/~{SS2} (io), 4 PTF0/RGPIO8/FTM1CH2 (io), 5 PTF1/RGPIO9/FTM1CH3 (io), 6 PTF2/RGPIO10/FTM1CH4 (io), 7 PTF3/RGPIO11/FTM1CH5 (io), 8 PTF4/RGPIO12/FTM2CH0 (io), 9 PTC6/FTM2FLT (io), 10 PTF7/RGPIO15 (io), 11 PTF5/RGPIO13/FTM2CH1 (io), 12 PTF6/RGPIO14/FTM1FLT (io), 13 PTE0/RGPIO0/TxD1 (io), 14 PTE1/RGPIO1/RxD1 (io), 15 PTE2/RGPIO2/FTM1CH0 (io), 16 PTE3/RGPIO3/FTM1CH1 (io), 17 PTE4/RGPIO4/~{SS1} (io), 18 PTE5/RGPIO5/MISO1 (io), 19 PTE6/RGPIO6/MOSI1 (io), 20 PTE7/RGPIO7/SPSCK1 (io), 23 PTG0/KBI1P0 (io), 24 PTG1/KBI1P1 (io), 25 PTG2/KBI1P2 (io), 26 PTA0/TxCAN (io), 27 PTA1/RxCAN (io), 28 PTA2 (io), 29 PTA3/ACMP2O (io), 30 PTA4/ACMP2- (io), 31 PTA5/ACMP2+ (io), 32 PTA6/AD1P16 (io), 33 PTA7/AD1P17 (io), 34 PTB0/TPM3CH0/AD1P0 (io), 35 PTB1/TPM3CH1/AD1P1 (io), 36 PTB2/AD1P2 (io), 37 PTB3/AD1P3 (io), 38 PTB4/AD1P4 (io), 39 PTB5/AD1P5 (io), 40 PTB6/AD1P6 (io), 41 PTB7/AD1P7 (io), 42 PTD0/AD1P8/ACMP1+ (io), 43 PTD1/AD1P9/ACMP1- (io), 46 PTD2/KBI1P5/AD1P10/ACMP1O (io), 47 PTD3/KBI1P6/AD1P11 (io), 48 PTG3/KBI1P3/AD1P18 (io), 49 PTG4/KBI1P4/AD1P19 (io), 50 PTD4/FTM2CLK/AD1P12 (io), 51 PTD5/AD1P13 (io), 52 PTD6/FTM1CLK/AD1P14 (io), 53 PTD7/KBI1P7/AD1P15 (io), 57 PTG5/XTAL (io), 58 PTG6/EXTAL (io), 60 PTC0/SCL1 (io), 61 PTC1/SDA1 (io), 62 PTC2/MCLK (io), 63 PTC3/TxD2 (io), 64 PTC5/RxD2 (io)
part B pins: 2 IRQ/TPMCLK (in), 3 ~{RESET} (in), 54 VREFH (power), 55 VREFL (power), 56 BKGD/MS
part C pins: 21 VSS (power), 22 VDD (power), 44 VDDA (power), 45 VSSA (power), 59 VSS (power)

## MCF51AC256AVFUE
designator U?
MCF51AC256 ColdFire V1 Microcontroller with CAN, 32-Bit, 256KB Flash, 32KB SRAM, -40°C to 105°C, 64-Pin QFP; DatasheetVersion: rev6, Mar-2011; PackageVersion: rev6, Mar-2011; PackageReference: 840B-02; PackageDescription: 64-Pin Quad Flat Pack, 14 x 14 mm Body, 0.8 mm Pitch; ComponentLink1Description: Manufacturer URL; ComponentLink1URL: http://www.freescale.com/; ComponentLink2Description: Datasheet; ComponentLink2URL: http://cache.freescale.com/files/32bit/doc/data_sheet/MCF51AC256.pdf?fpsp=1&WT_TYPE=Data%20Sheets&WT_VENDOR=FREESCALE&WT_FILE_FORMAT=pdf&WT_ASSET=Documentation
footprint 840B-02_N (QFP, 64-Leads, Body 14x14mm, Pitch 0.8mm, IPC Medium Density)
footprint 840B-02_L (QFP, 64-Leads, Body 14x14mm, Pitch 0.8mm, IPC High Density)
footprint 840B-02_M (QFP, 64-Leads, Body 14x14mm, Pitch 0.8mm, IPC Low Density)
part A pins: 1 PTC4/~{SS2} (io), 4 PTF0/RGPIO8/FTM1CH2 (io), 5 PTF1/RGPIO9/FTM1CH3 (io), 6 PTF2/RGPIO10/FTM1CH4 (io), 7 PTF3/RGPIO11/FTM1CH5 (io), 8 PTF4/RGPIO12/FTM2CH0 (io), 9 PTC6/FTM2FLT (io), 10 PTF7/RGPIO15 (io), 11 PTF5/RGPIO13/FTM2CH1 (io), 12 PTF6/RGPIO14/FTM1FLT (io), 13 PTE0/RGPIO0/TxD1 (io), 14 PTE1/RGPIO1/RxD1 (io), 15 PTE2/RGPIO2/FTM1CH0 (io), 16 PTE3/RGPIO3/FTM1CH1 (io), 17 PTE4/RGPIO4/~{SS1} (io), 18 PTE5/RGPIO5/MISO1 (io), 19 PTE6/RGPIO6/MOSI1 (io), 20 PTE7/RGPIO7/SPSCK1 (io), 23 PTG0/KBI1P0 (io), 24 PTG1/KBI1P1 (io), 25 PTG2/KBI1P2 (io), 26 PTA0/TxCAN (io), 27 PTA1/RxCAN (io), 28 PTA2 (io), 29 PTA3/ACMP2O (io), 30 PTA4/ACMP2- (io), 31 PTA5/ACMP2+ (io), 32 PTA6/AD1P16 (io), 33 PTA7/AD1P17 (io), 34 PTB0/TPM3CH0/AD1P0 (io), 35 PTB1/TPM3CH1/AD1P1 (io), 36 PTB2/AD1P2 (io), 37 PTB3/AD1P3 (io), 38 PTB4/AD1P4 (io), 39 PTB5/AD1P5 (io), 40 PTB6/AD1P6 (io), 41 PTB7/AD1P7 (io), 42 PTD0/AD1P8/ACMP1+ (io), 43 PTD1/AD1P9/ACMP1- (io), 46 PTD2/KBI1P5/AD1P10/ACMP1O (io), 47 PTD3/KBI1P6/AD1P11 (io), 48 PTG3/KBI1P3/AD1P18 (io), 49 PTG4/KBI1P4/AD1P19 (io), 50 PTD4/FTM2CLK/AD1P12 (io), 51 PTD5/AD1P13 (io), 52 PTD6/FTM1CLK/AD1P14 (io), 53 PTD7/KBI1P7/AD1P15 (io), 57 PTG5/XTAL (io), 58 PTG6/EXTAL (io), 60 PTC0/SCL1 (io), 61 PTC1/SDA1 (io), 62 PTC2/MCLK (io), 63 PTC3/TxD2 (io), 64 PTC5/RxD2 (io)
part B pins: 2 IRQ/TPMCLK (in), 3 ~{RESET} (in), 54 VREFH (power), 55 VREFL (power), 56 BKGD/MS
part C pins: 21 VSS (power), 22 VDD (power), 44 VDDA (power), 45 VSSA (power), 59 VSS (power)

## MCF51AC256AVLKE
designator U?
MCF51AC256 ColdFire V1 Microcontroller with CAN, 32-Bit, 256KB Flash, 32KB SRAM, -40°C to 105°C, 80-Pin LQFP; DatasheetVersion: rev6, Mar-2011; PackageVersion: revC, May-2005; PackageReference: 1418-01; PackageDescription: 80-Pin Quad Flat Pack 0.65 mm Pitch; ComponentLink1Description: Manufacturer URL; ComponentLink1URL: http://www.freescale.com/; ComponentLink2Description: Datasheet; ComponentLink2URL: http://cache.freescale.com/files/32bit/doc/data_sheet/MCF51AC256.pdf?fpsp=1&WT_TYPE=Data%20Sheets&WT_VENDOR=FREESCALE&WT_FILE_FORMAT=pdf&WT_ASSET=Documentation
footprint 1418-01_N (QFP, 80-Leads, Body 14x14mm, Pitch 0.65mm, IPC Medium Density)
footprint 1418-01_L (QFP, 80-Leads, Body 14x14mm, Pitch 0.65mm, IPC High Density)
footprint 1418-01_M (QFP, 80-Leads, Body 14x14mm, Pitch 0.65mm, IPC Low Density)
part A pins: 1 PTC4/~{SS2} (io), 4 PTF0/RGPIO8/FTM1CH2 (io), 5 PTF1/RGPIO9/FTM1CH3 (io), 6 PTF2/RGPIO10/FTM1CH4 (io), 7 PTF3/RGPIO11/FTM1CH5 (io), 8 PTF4/RGPIO12/FTM2CH0 (io), 9 PTC6/FTM2FLT (io), 10 PTF7/RGPIO15 (io), 11 PTF5/RGPIO13/FTM2CH1 (io), 12 PTF6/RGPIO14/FTM1FLT (io), 13 PTJ0/PST0 (io), 14 PTJ1/PST1 (io), 15 PTJ2/PST2 (io), 16 PTJ3/PST3 (io), 17 PTE0/RGPIO0/TxD1 (io), 18 PTE1/RGPIO1/RxD1 (io), 19 PTE2/RGPIO2/FTM1CH0 (io), 20 PTE3/RGPIO3/FTM1CH1 (io), 21 PTE4/RGPIO4/~{SS1} (io), 22 PTE5/RGPIO5/MISO1 (io), 23 PTE6/RGPIO6/MOSI1 (io), 24 PTE7/RGPIO7/SPSCK1 (io), 27 PTJ4/DDATA0 (io), 28 PTJ5/DDATA1 (io), 29 PTJ6/DDATA2 (io), 30 PTJ7/DDATA3 (io), 31 PTG0/KBI1P0 (io), 32 PTG1/KBI1P1 (io), 33 PTG2/KBI1P2 (io), 34 PTA0/TxCAN (io), 35 PTA1/RxCAN (io), 36 PTA2 (io), 37 PTA3/ACMP2O (io), 38 PTA4/ACMP2- (io), 39 PTA5/ACMP2+ (io), 40 PTA6/AD1P16 (io), 41 PTA7/AD1P17 (io), 42 PTH0/FTM2CH2/AD1P20 (io), 43 PTH1/FTM2CH3/PSTCLK0/AD1P21 (io), 44 PTH2/FTM2CH4/PSTCLK1/AD1P22 (io), 45 PTH3/FTM2CH5/BKPT/AD1P23 (io), 46 PTB0/TPM3CH0/AD1P0 (io), 47 PTB1/TPM3CH1/AD1P1 (io), 48 PTB2/AD1P2 (io), 49 PTB3/AD1P3 (io), 50 PTB4/AD1P4 (io), 51 PTB5/AD1P5 (io), 52 PTB6/AD1P6 (io), 53 PTB7/AD1P7 (io), 54 PTD0/AD1P8/ACMP1+ (io), 55 PTD1/AD1P9/ACMP1- (io), 58 PTD2/KBI1P5/AD1P10/ACMP1O (io), 59 PTD3/KBI1P6/AD1P11 (io), 60 PTG3/KBI1P3/AD1P18 (io), 61 PTG4/KBI1P4/AD1P19 (io), 62 PTD4/FTM2CLK/AD1P12 (io), 63 PTD5/AD1P13 (io), 64 PTD6/FTM1CLK/AD1P14 (io), 65 PTD7/KBI1P7/AD1P15 (io), 69 PTG5/XTAL (io), 70 PTG6/EXTAL (io), 73 PTC0/SCL1 (io), 74 PTC1/SDA1 (io), 75 PTH4/SPCK2 (io), 76 PTH5/MOSI2 (io), 77 PTH6/MISO2 (io), 78 PTC2/MCLK (io), 79 PTC3/TxD2 (io), 80 PTC5/RxD2 (io)
part B pins: 2 IRQ/TPMCLK (in), 3 ~{RESET} (in), 66 VREFH (power), 67 VREFL (power), 68 BKGD/MS
part C pins: 25 VSS (power), 26 VDD (power), 56 VDDA (power), 57 VSSA (power), 71 VSS (power), 72 VDD (power)

## MCF51AC256AVPUE
designator U?
MCF51AC256 ColdFire V1 Microcontroller with CAN, 32-Bit, 256KB Flash, 32KB SRAM, -40°C to 105°C, 64-Pin LQFP; DatasheetVersion: rev6, Mar-2011; PackageVersion: rev6, Mar-2011; PackageReference: 840F-02; PackageDescription: 64-Pin Thin Quad Flat Pack, 10 x 10 mm Body, 0.5 mm Pitch; ComponentLink1Description: Manufacturer URL; ComponentLink1URL: http://www.freescale.com/; ComponentLink2Description: Datasheet; ComponentLink2URL: http://cache.freescale.com/files/32bit/doc/data_sheet/MCF51AC256.pdf?fpsp=1&WT_TYPE=Data%20Sheets&WT_VENDOR=FREESCALE&WT_FILE_FORMAT=pdf&WT_ASSET=Documentation
footprint 840F-02_N (Thin QFP, 64-Leads, Body 10x10mm, Pitch 0.5mm, IPC Medium Density)
footprint 840F-02_L (Thin QFP, 64-Leads, Body 10x10mm, Pitch 0.5mm, IPC High Density)
footprint 840F-02_M (Thin QFP, 64-Leads, Body 10x10mm, Pitch 0.5mm, IPC Low Density)
part A pins: 1 PTC4/~{SS2} (io), 4 PTF0/RGPIO8/FTM1CH2 (io), 5 PTF1/RGPIO9/FTM1CH3 (io), 6 PTF2/RGPIO10/FTM1CH4 (io), 7 PTF3/RGPIO11/FTM1CH5 (io), 8 PTF4/RGPIO12/FTM2CH0 (io), 9 PTC6/FTM2FLT (io), 10 PTF7/RGPIO15 (io), 11 PTF5/RGPIO13/FTM2CH1 (io), 12 PTF6/RGPIO14/FTM1FLT (io), 13 PTE0/RGPIO0/TxD1 (io), 14 PTE1/RGPIO1/RxD1 (io), 15 PTE2/RGPIO2/FTM1CH0 (io), 16 PTE3/RGPIO3/FTM1CH1 (io), 17 PTE4/RGPIO4/~{SS1} (io), 18 PTE5/RGPIO5/MISO1 (io), 19 PTE6/RGPIO6/MOSI1 (io), 20 PTE7/RGPIO7/SPSCK1 (io), 23 PTG0/KBI1P0 (io), 24 PTG1/KBI1P1 (io), 25 PTG2/KBI1P2 (io), 26 PTA0/TxCAN (io), 27 PTA1/RxCAN (io), 28 PTA2 (io), 29 PTA3/ACMP2O (io), 30 PTA4/ACMP2- (io), 31 PTA5/ACMP2+ (io), 32 PTA6/AD1P16 (io), 33 PTA7/AD1P17 (io), 34 PTB0/TPM3CH0/AD1P0 (io), 35 PTB1/TPM3CH1/AD1P1 (io), 36 PTB2/AD1P2 (io), 37 PTB3/AD1P3 (io), 38 PTB4/AD1P4 (io), 39 PTB5/AD1P5 (io), 40 PTB6/AD1P6 (io), 41 PTB7/AD1P7 (io), 42 PTD0/AD1P8/ACMP1+ (io), 43 PTD1/AD1P9/ACMP1- (io), 46 PTD2/KBI1P5/AD1P10/ACMP1O (io), 47 PTD3/KBI1P6/AD1P11 (io), 48 PTG3/KBI1P3/AD1P18 (io), 49 PTG4/KBI1P4/AD1P19 (io), 50 PTD4/FTM2CLK/AD1P12 (io), 51 PTD5/AD1P13 (io), 52 PTD6/FTM1CLK/AD1P14 (io), 53 PTD7/KBI1P7/AD1P15 (io), 57 PTG5/XTAL (io), 58 PTG6/EXTAL (io), 60 PTC0/SCL1 (io), 61 PTC1/SDA1 (io), 62 PTC2/MCLK (io), 63 PTC3/TxD2 (io), 64 PTC5/RxD2 (io)
part B pins: 2 IRQ/TPMCLK (in), 3 ~{RESET} (in), 54 VREFH (power), 55 VREFL (power), 56 BKGD/MS
part C pins: 21 VSS (power), 22 VDD (power), 44 VDDA (power), 45 VSSA (power), 59 VSS (power)

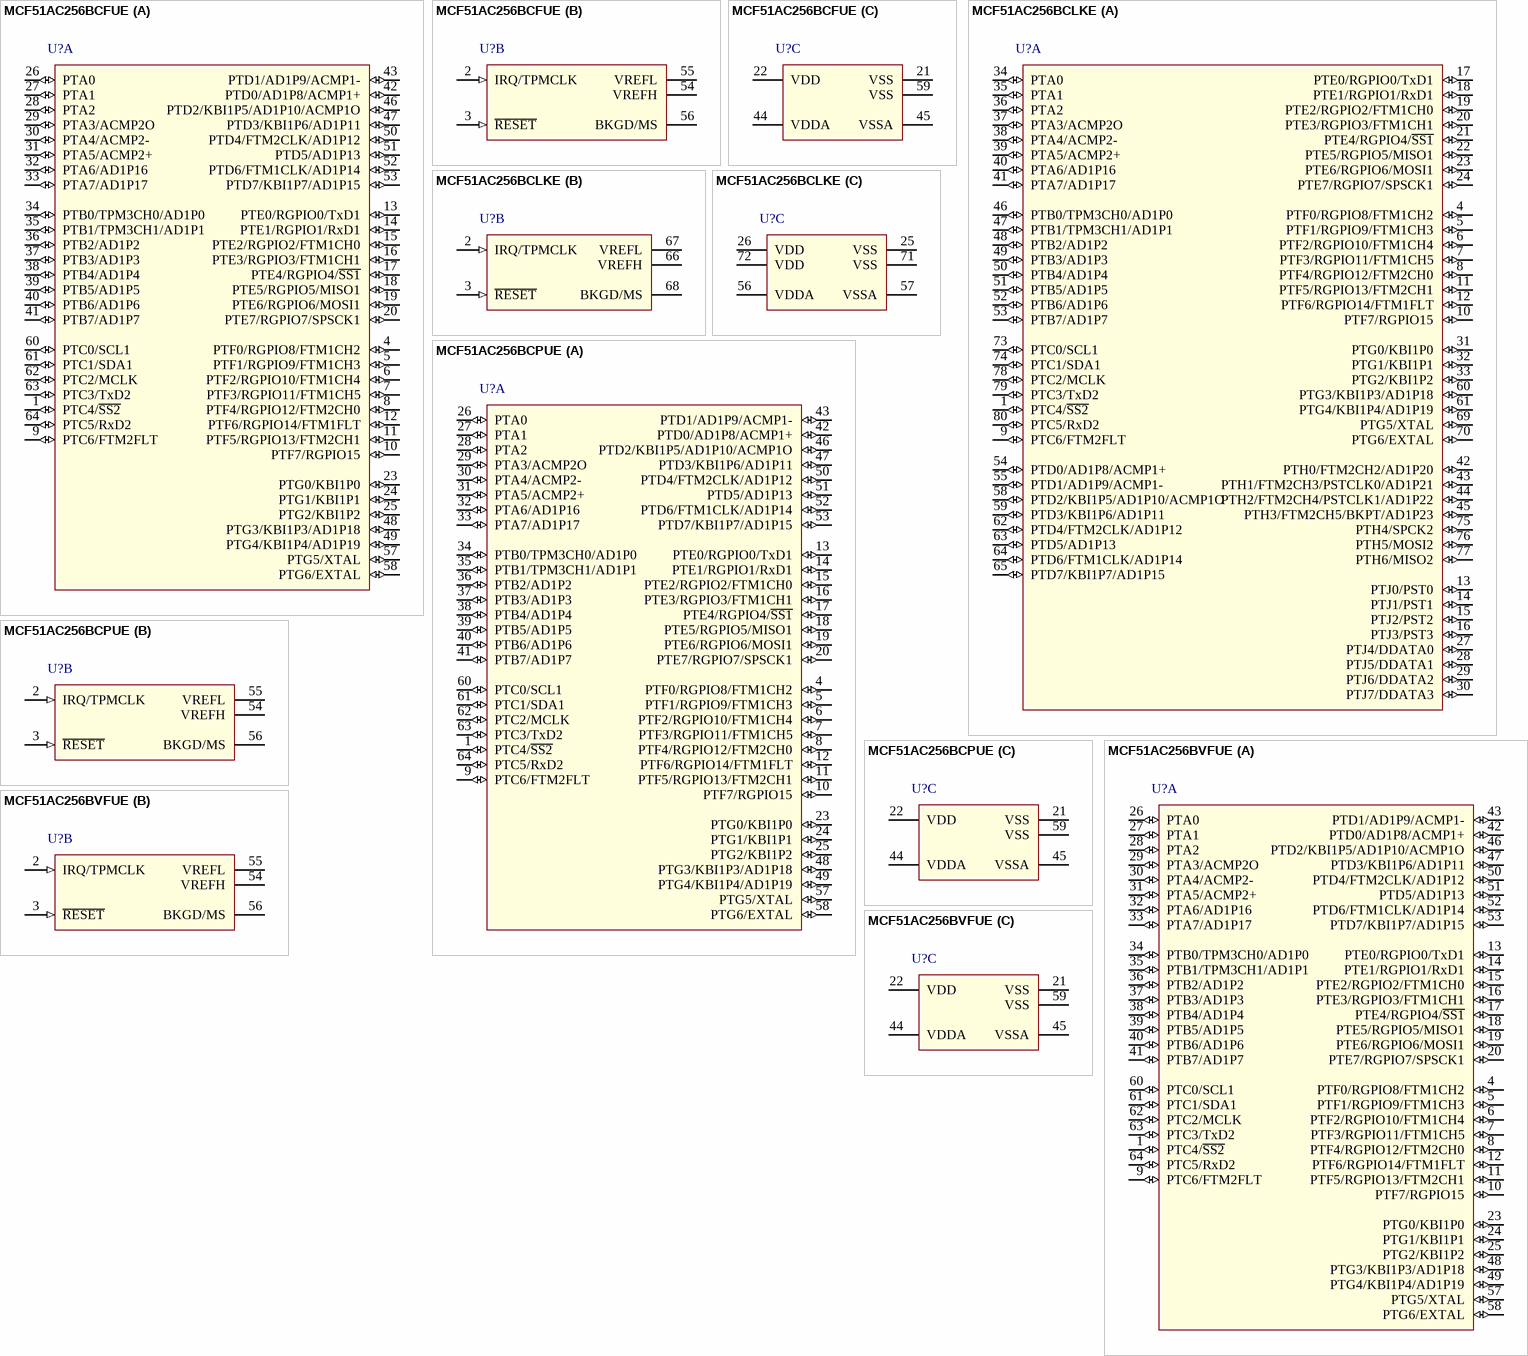
[diagram p4: symbols MCF51AC256BCFUE to MCF51AC256BVFUE]

## MCF51AC256BCFUE
designator U?
MCF51AC256 ColdFire V1 Microcontroller without CAN, 32-Bit, 256KB Flash, 32KB SRAM, -40°C to 85°C, 64-Pin QFP; DatasheetVersion: rev6, Mar-2011; PackageVersion: rev6, Mar-2011; PackageReference: 840B-02; PackageDescription: 64-Pin Quad Flat Pack, 14 x 14 mm Body, 0.8 mm Pitch; ComponentLink1Description: Manufacturer URL; ComponentLink1URL: http://www.freescale.com/; ComponentLink2Description: Datasheet; ComponentLink2URL: http://cache.freescale.com/files/32bit/doc/data_sheet/MCF51AC256.pdf?fpsp=1&WT_TYPE=Data%20Sheets&WT_VENDOR=FREESCALE&WT_FILE_FORMAT=pdf&WT_ASSET=Documentation
footprint 840B-02_N (QFP, 64-Leads, Body 14x14mm, Pitch 0.8mm, IPC Medium Density)
footprint 840B-02_L (QFP, 64-Leads, Body 14x14mm, Pitch 0.8mm, IPC High Density)
footprint 840B-02_M (QFP, 64-Leads, Body 14x14mm, Pitch 0.8mm, IPC Low Density)
part A pins: 1 PTC4/~{SS2} (io), 4 PTF0/RGPIO8/FTM1CH2 (io), 5 PTF1/RGPIO9/FTM1CH3 (io), 6 PTF2/RGPIO10/FTM1CH4 (io), 7 PTF3/RGPIO11/FTM1CH5 (io), 8 PTF4/RGPIO12/FTM2CH0 (io), 9 PTC6/FTM2FLT (io), 10 PTF7/RGPIO15 (io), 11 PTF5/RGPIO13/FTM2CH1 (io), 12 PTF6/RGPIO14/FTM1FLT (io), 13 PTE0/RGPIO0/TxD1 (io), 14 PTE1/RGPIO1/RxD1 (io), 15 PTE2/RGPIO2/FTM1CH0 (io), 16 PTE3/RGPIO3/FTM1CH1 (io), 17 PTE4/RGPIO4/~{SS1} (io), 18 PTE5/RGPIO5/MISO1 (io), 19 PTE6/RGPIO6/MOSI1 (io), 20 PTE7/RGPIO7/SPSCK1 (io), 23 PTG0/KBI1P0 (io), 24 PTG1/KBI1P1 (io), 25 PTG2/KBI1P2 (io), 26 PTA0 (io), 27 PTA1 (io), 28 PTA2 (io), 29 PTA3/ACMP2O (io), 30 PTA4/ACMP2- (io), 31 PTA5/ACMP2+ (io), 32 PTA6/AD1P16 (io), 33 PTA7/AD1P17 (io), 34 PTB0/TPM3CH0/AD1P0 (io), 35 PTB1/TPM3CH1/AD1P1 (io), 36 PTB2/AD1P2 (io), 37 PTB3/AD1P3 (io), 38 PTB4/AD1P4 (io), 39 PTB5/AD1P5 (io), 40 PTB6/AD1P6 (io), 41 PTB7/AD1P7 (io), 42 PTD0/AD1P8/ACMP1+ (io), 43 PTD1/AD1P9/ACMP1- (io), 46 PTD2/KBI1P5/AD1P10/ACMP1O (io), 47 PTD3/KBI1P6/AD1P11 (io), 48 PTG3/KBI1P3/AD1P18 (io), 49 PTG4/KBI1P4/AD1P19 (io), 50 PTD4/FTM2CLK/AD1P12 (io), 51 PTD5/AD1P13 (io), 52 PTD6/FTM1CLK/AD1P14 (io), 53 PTD7/KBI1P7/AD1P15 (io), 57 PTG5/XTAL (io), 58 PTG6/EXTAL (io), 60 PTC0/SCL1 (io), 61 PTC1/SDA1 (io), 62 PTC2/MCLK (io), 63 PTC3/TxD2 (io), 64 PTC5/RxD2 (io)
part B pins: 2 IRQ/TPMCLK (in), 3 ~{RESET} (in), 54 VREFH (power), 55 VREFL (power), 56 BKGD/MS
part C pins: 21 VSS (power), 22 VDD (power), 44 VDDA (power), 45 VSSA (power), 59 VSS (power)